# Altium schematic symbol library fpga_zynq_ultrascale.SchLib: 12 symbols (part 2 of 4)
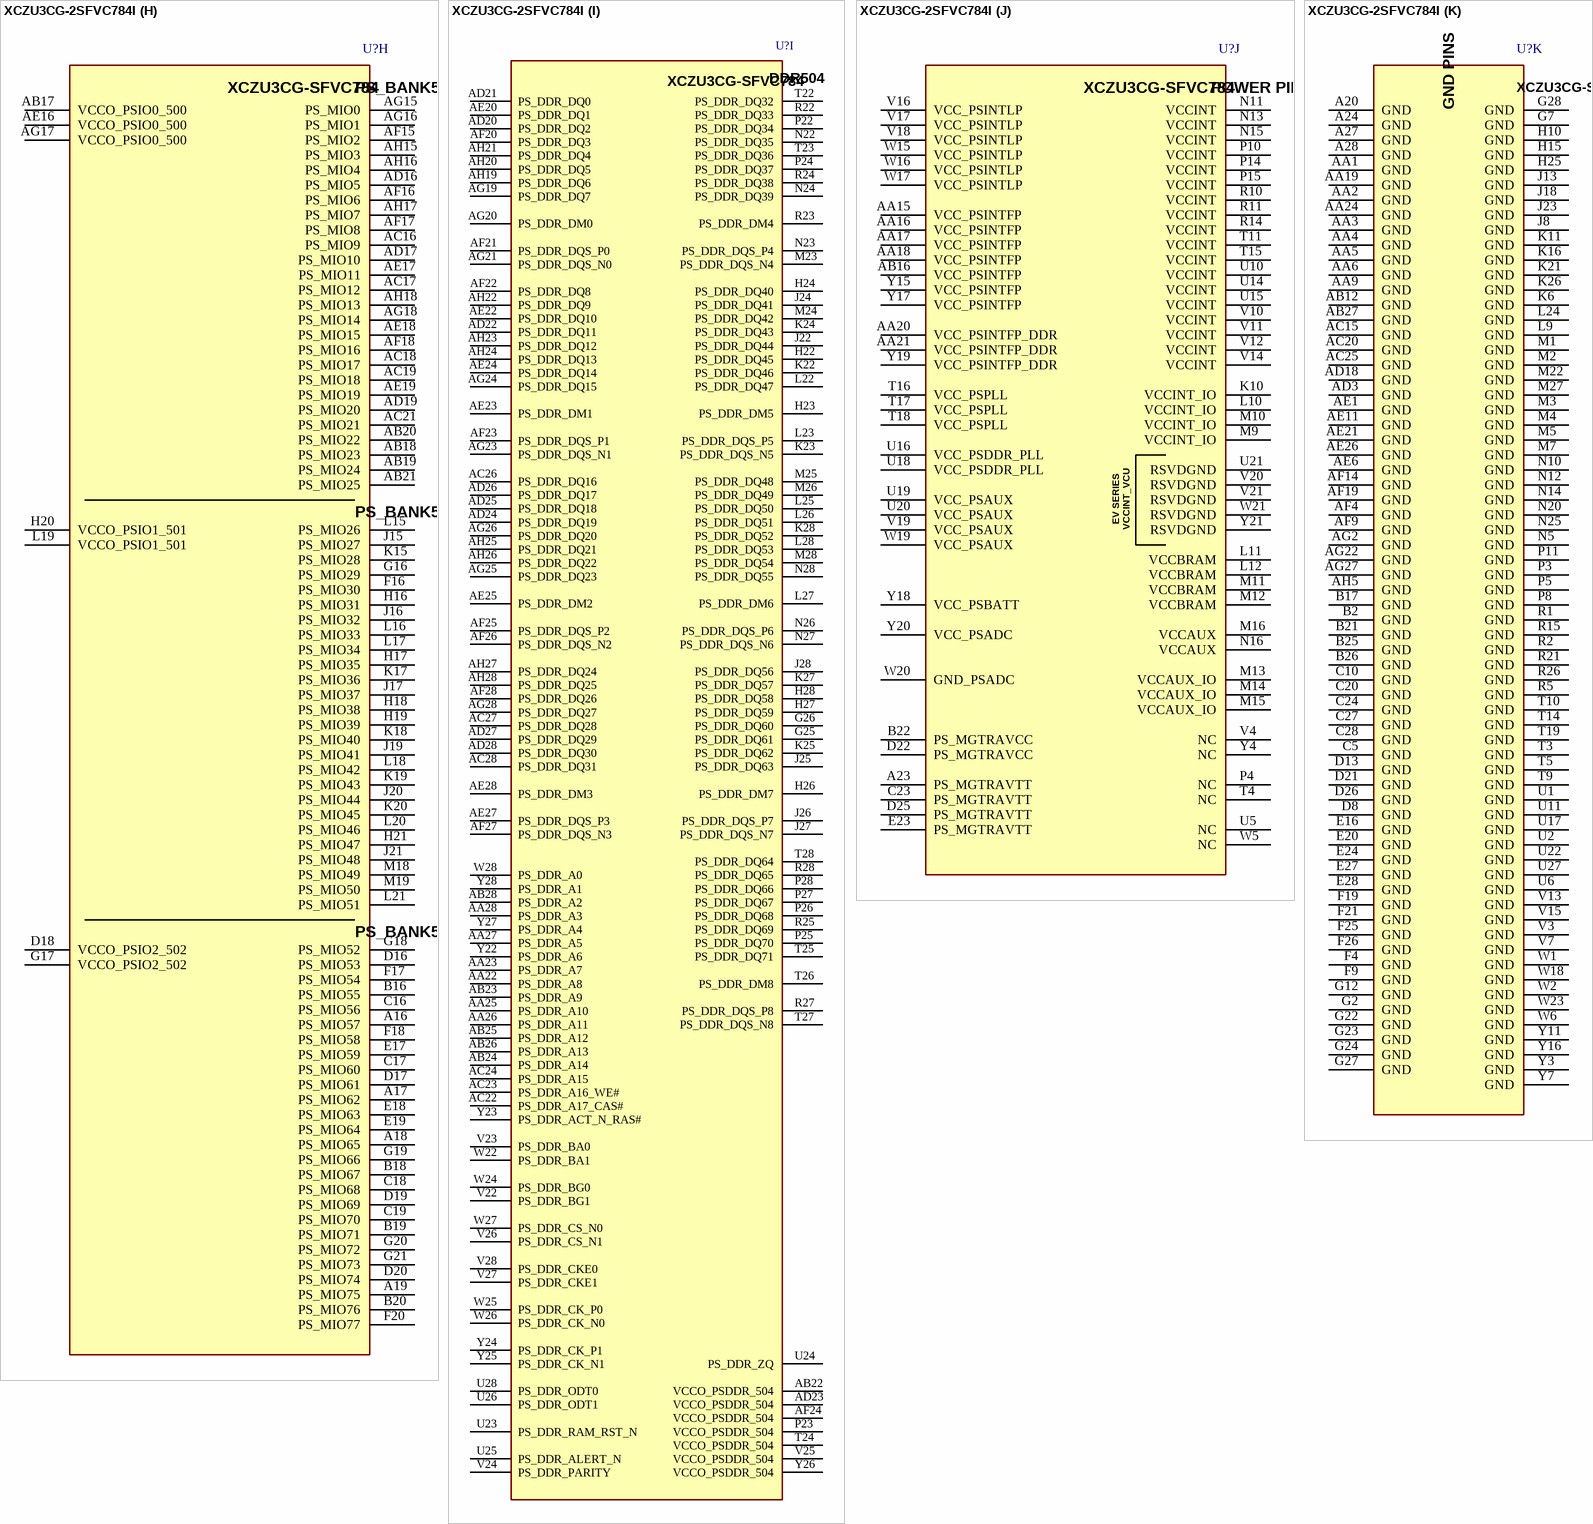
[diagram p36: symbol XCZU3CG-2SFVC784I]

## XCZU3CG-2SFVC784I
designator U?, comment XCZU3CG-C784I  (value not drawn)
SoC Zynq UltraScale+ MPSoC; MANF: XILINX; MANF_P#: XCZU3CG-2SFVC784I; VALUE: XCZU3CG-C784I
footprint BGA80_784_S23
part A pins: M17 VCCO_PSIO3_503, M20 PS_ERROR_STATUS, M21 PS_DONE, N17 PS_PADI, N18 PS_PADO, N19 PS_SRST_B, N21 PS_JTAG_TMS, P12 VCCADC, P13 GNDADC, P16 PS_POR_B, P17 PS_ERROR_OUT, P18 VCCO_PSIO3_503, P19 PS_MODE0, P20 PS_MODE1, P21 PS_INIT_B, R12 VREFN, R13 VP, R16 PS_REF_CLK, R17 PS_PROG_B, R18 PS_JTAG_TDI, R19 PS_JTAG_TCK, R20 PS_MODE2, T12 VN, T13 VREFP, T20 PS_MODE3, T21 PS_JTAG_TDO, U7 PUDC_B, U12 DXN, U13 DXP, W7 POR_OVERRIDE
part B pins: AA8 IO_L11N_AD1N_44, AA10 IO_L9N_AD3N_44, AA11 IO_L9P_AD3P_44, AA12 IO_L12N_AD8N_24, AA13 IO_L7P_HDGC_24, AA14 VCCO_24, AB9 IO_L12N_AD0N_44, AB10 IO_L12P_AD0P_44, AB11 IO_L8P_HDGC_AD4P_44, AB13 IO_L7N_HDGC_24, AB14 IO_L8N_HDGC_24, AB15 IO_L8P_HDGC_24, AC10 VCCO_44, AC11 IO_L8N_HDGC_AD4N_44, AC12 IO_L6P_HDGC_AD6P_44, AC13 IO_L6N_HDGC_24, AC14 IO_L6P_HDGC_24, AD10 IO_L7N_HDGC_AD5N_44, AD11 IO_L7P_HDGC_AD5P_44, AD12 IO_L6N_HDGC_AD6N_44, AD13 VCCO_24, AD14 IO_L5N_HDGC_24, AD15 IO_L5P_HDGC_24, AE10 IO_L4P_AD8P_44, AE12 IO_L5P_HDGC_AD7P_44, AE13 IO_L4P_AD12P_24, AE14 IO_L1N_AD15N_24, AE15 IO_L1P_AD15P_24, AF10 IO_L4N_AD8N_44, AF11 IO_L2P_AD10P_44, AF12 IO_L5N_HDGC_AD7N_44, AF13 IO_L4N_AD12N_24, AG10 IO_L1P_AD11P_44, AG11 IO_L2N_AD10N_44, AG12 VCCO_44, AG13 IO_L3P_AD13P_24, AG14 IO_L2P_AD14P_24, AH10 IO_L1N_AD11N_44, AH11 IO_L3N_AD9N_44, AH12 IO_L3P_AD9P_44, AH13 IO_L3N_AD13N_24, AH14 IO_L2N_AD14N_24, W10 IO_L10P_AD2P_44, W11 IO_L11N_AD9N_24, W12 IO_L11P_AD9P_24, W13 IO_L9N_AD11N_24, W14 IO_L9P_AD11P_24, Y9 IO_L11P_AD1P_44, Y10 IO_L10N_AD2N_44, Y12 IO_L12P_AD8P_24, Y13 IO_L10N_AD10N_24, Y14 IO_L10P_AD10P_24
part C pins: A10 IO_L10N_AD10N_25, A11 IO_L11N_AD9N_25, A12 IO_L11P_AD9P_25, A13 IO_L3N_AD9N_26, A14 IO_L2N_AD10N_26, A15 IO_L1N_AD11N_26, B10 IO_L9N_AD11N_25, B11 IO_L10P_AD10P_25, B12 VCCO_25, B13 IO_L3P_AD9P_26, B14 IO_L2P_AD10P_26, B15 IO_L1P_AD11P_26, C11 IO_L9P_AD11P_25, C12 IO_L12N_AD8N_25, C13 IO_L4N_AD8N_26, C14 IO_L4P_AD8P_26, C15 VCCO_26, D10 IO_L7N_HDGC_25, D11 IO_L8N_HDGC_25, D12 IO_L12P_AD8P_25, D14 IO_L5N_HDGC_AD7N_26, D15 IO_L5P_HDGC_AD7P_26, E10 IO_L7P_HDGC_25, E11 VCCO_25, E12 IO_L8P_HDGC_25, E13 IO_L6N_HDGC_AD6N_26, E14 IO_L6P_HDGC_AD6P_26, E15 IO_L8N_HDGC_AD4N_26, F10 IO_L5N_HDGC_25, F11 IO_L6N_HDGC_25, F12 IO_L6P_HDGC_25, F13 IO_L7N_HDGC_AD5N_26, F14 VCCO_26, F15 IO_L8P_HDGC_AD4P_26, G10 IO_L3N_AD13N_25, G11 IO_L5P_HDGC_25, G13 IO_L7P_HDGC_AD5P_26, G14 IO_L9N_AD3N_26, G15 IO_L9P_AD3P_26, H11 IO_L3P_AD13P_25, H12 IO_L4N_AD12N_25, H13 IO_L10N_AD2N_26, H14 IO_L10P_AD2P_26, J10 IO_L1N_AD15N_25, J11 IO_L1P_AD15P_25, J12 IO_L4P_AD12P_25, J14 IO_L11N_AD1N_26, K12 IO_L2N_AD14N_25, K13 IO_L2P_AD14P_25, K14 IO_L11P_AD1P_26, L13 IO_L12N_AD0N_26, L14 IO_L12P_AD0P_26
part D pins: AA7 VREF_64, AB1 IO_L18P_T2U_N10_AD2P_64, AB2 IO_L17P_T2U_N8_AD10P_64, AB3 IO_L15N_T2L_N5_AD11N_64, AB4 IO_L15P_T2L_N4_AD11P_64, AB5 IO_T2U_N12_64, AB6 IO_L6P_T0U_N10_AD6P_64, AB7 IO_L5P_T0U_N8_AD14P_64, AB8 IO_L3P_T0L_N4_AD15P_64, AC1 IO_L18N_T2U_N11_AD2N_64, AC2 IO_L17N_T2U_N9_AD10N_64, AC3 IO_L14N_T2L_N3_GC_64, AC4 IO_L14P_T2L_N2_GC_64, AC5 VCCO_64, AC6 IO_L6N_T0U_N11_AD6N_64, AC7 IO_L5N_T0U_N9_AD14N_64, AC8 IO_L3N_T0L_N5_AD15N_64, AC9 IO_L1P_T0L_N0_DBC_64, AD1 IO_L16N_T2U_N7_QBC_AD3N_64, AD2 IO_L16P_T2U_N6_QBC_AD3P_64, AD4 IO_L13N_T2L_N1_GC_QBC_64, AD5 IO_L13P_T2L_N0_GC_QBC_64, AD6 IO_T0U_N12_VRP_64, AD7 IO_L4P_T0U_N6_DBC_AD7P_64, AD8 VCCO_64, AD9 IO_L1N_T0L_N1_DBC_64, AE2 IO_L22P_T3U_N6_DBC_AD0P_64, AE3 IO_L21P_T3L_N4_AD8P_64, AE4 IO_T3U_N12_64, AE5 IO_L12P_T1U_N10_GC_64, AE7 IO_L4N_T0U_N7_DBC_AD7N_64, AE8 IO_L2N_T0L_N3_64, AE9 IO_L2P_T0L_N2_64, AF1 IO_L24P_T3U_N10_64, AF2 IO_L22N_T3U_N7_DBC_AD0N_64, AF3 IO_L21N_T3L_N5_AD8N_64, AF5 IO_L12N_T1U_N11_GC_64, AF6 IO_L11N_T1U_N9_GC_64, AF7 IO_L11P_T1U_N8_GC_64, AF8 IO_L8P_T1L_N2_AD5P_64, AG1 IO_L24N_T3U_N11_64, AG3 IO_L20P_T3L_N2_AD1P_64, AG4 IO_L19P_T3L_N0_DBC_AD9P_64, AG5 IO_L10N_T1U_N7_QBC_AD4N_64, AG6 IO_L10P_T1U_N6_QBC_AD4P_64, AG7 VCCO_64, AG8 IO_L8N_T1L_N3_AD5N_64, AG9 IO_L7P_T1L_N0_QBC_AD13P_64, AH1 IO_L23N_T3U_N9_64, AH2 IO_L23P_T3U_N8_64, AH3 IO_L20N_T3L_N3_AD1N_64, AH4 IO_L19N_T3L_N1_DBC_AD9N_64, AH6 IO_T1U_N12_64, AH7 IO_L9N_T1L_N5_AD12N_64, AH8 IO_L9P_T1L_N4_AD12P_64, AH9 IO_L7N_T1L_N1_QBC_AD13N_64
part E pins: H1 IO_L8N_T1L_N3_AD5N_65, H2 IO_T1U_N12_65, H3 IO_L10N_T1U_N7_QBC_AD4N_65, H4 IO_L10P_T1U_N6_QBC_AD4P_65, H5 VCCO_65, H6 IO_L20N_T3L_N3_AD1N_65, H7 IO_L21N_T3L_N5_AD8N_65, H8 IO_L24N_T3U_N11_PERSTN0_65, H9 IO_L24P_T3U_N10_PERSTN1_I2C_SDA_65, J1 IO_L8P_T1L_N2_AD5P_65, J2 IO_L9N_T1L_N5_AD12N_65, J3 VCCO_65, J4 IO_L19N_T3L_N1_DBC_AD9N_65, J5 IO_L19P_T3L_N0_DBC_AD9P_65, J6 IO_L20P_T3L_N2_AD1P_65, J7 IO_L21P_T3L_N4_AD8P_65, J9 IO_L23N_T3U_N9_65, K1 IO_L7N_T1L_N1_QBC_AD13N_65, K2 IO_L9P_T1L_N4_AD12P_65, K3 IO_L11N_T1U_N9_GC_65, K4 IO_L11P_T1U_N8_GC_65, K5 IO_T3U_N12_65, K7 IO_L22N_T3U_N7_DBC_AD0N_65, K8 IO_L22P_T3U_N6_DBC_AD0P_65, K9 IO_L23P_T3U_N8_I2C_SCLK_65, L1 IO_L7P_T1L_N0_QBC_AD13P_65, L2 IO_L12N_T1U_N11_GC_65, L3 IO_L12P_T1U_N10_GC_65, L4 VCCO_65, L5 IO_L14N_T2L_N3_GC_65, L6 IO_L13N_T2L_N1_GC_QBC_65, L7 IO_L13P_T2L_N0_GC_QBC_65, L8 IO_L18N_T2U_N11_AD2N_65, M6 IO_L14P_T2L_N2_GC_65, M8 IO_L18P_T2U_N10_AD2P_65, N6 IO_L15N_T2L_N5_AD11N_65, N7 IO_L15P_T2L_N4_AD11P_65, N8 IO_L17N_T2U_N9_AD10N_65, N9 IO_L17P_T2U_N8_AD10P_65, P6 IO_L16N_T2U_N7_QBC_AD3N_65, P7 IO_L16P_T2U_N6_QBC_AD3P_65, P9 IO_T2U_N12_65, R6 IO_L6P_T0U_N10_AD6P_65, R7 IO_L5P_T0U_N8_AD14P_65, R8 IO_L4P_T0U_N6_DBC_AD7P_SMBALERT_65, R9 VREF_65, T6 IO_L6N_T0U_N11_AD6N_65, T7 IO_L5N_T0U_N9_AD14N_65, T8 IO_L4N_T0U_N7_DBC_AD7N_65, U8 IO_L3P_T0L_N4_AD15P_65, U9 IO_L2P_T0L_N2_65, V8 IO_L3N_T0L_N5_AD15N_65, V9 IO_L2N_T0L_N3_65, W8 IO_L1P_T0L_N0_DBC_65, W9 IO_T0U_N12_VRP_65, Y8 IO_L1N_T0L_N1_DBC_65
part F pins: A1 IO_L8N_T1L_N3_AD5N_66, A2 IO_L8P_T1L_N2_AD5P_66, A3 IO_L9N_T1L_N5_AD12N_66, A4 IO_L10N_T1U_N7_QBC_AD4N_66, A5 IO_L19N_T3L_N1_DBC_AD9N_66, A6 IO_L21N_T3L_N5_AD8N_66, A7 IO_L21P_T3L_N4_AD8P_66, A8 IO_L23N_T3U_N9_66, A9 IO_L23P_T3U_N8_66, B1 IO_L7N_T1L_N1_QBC_AD13N_66, B3 IO_L9P_T1L_N4_AD12P_66, B4 IO_L10P_T1U_N6_QBC_AD4P_66, B5 IO_L19P_T3L_N0_DBC_AD9P_66, B6 IO_L20N_T3L_N3_AD1N_66, B7 VCCO_66, B8 IO_L22N_T3U_N7_DBC_AD0N_66, B9 IO_L24N_T3U_N11_66, C1 IO_L7P_T1L_N0_QBC_AD13P_66, C2 IO_L12N_T1U_N11_GC_66, C3 IO_L12P_T1U_N10_GC_66, C4 IO_L11N_T1U_N9_GC_66, C6 IO_L20P_T3L_N2_AD1P_66, C7 IO_T3U_N12_66, C8 IO_L22P_T3U_N6_DBC_AD0P_66, C9 IO_L24P_T3U_N10_66, D1 IO_L2N_T0L_N3_66, D2 IO_T1U_N12_66, D3 VCCO_66, D4 IO_L11P_T1U_N8_GC_66, D5 IO_L14N_T2L_N3_GC_66, D6 IO_L13N_T2L_N1_GC_QBC_66, D7 IO_L13P_T2L_N0_GC_QBC_66, D9 IO_L18N_T2U_N11_AD2N_66, E1 IO_L2P_T0L_N2_66, E2 IO_L3N_T0L_N5_AD15N_66, E3 IO_L5N_T0U_N9_AD14N_66, E4 IO_L5P_T0U_N8_AD14P_66, E5 IO_L14P_T2L_N2_GC_66, E6 VCCO_66, E7 IO_T2U_N12_66, E8 IO_L17N_T2U_N9_AD10N_66, E9 IO_L18P_T2U_N10_AD2P_66, F1 IO_L1N_T0L_N1_DBC_66, F2 IO_L3P_T0L_N4_AD15P_66, F3 IO_L4N_T0U_N7_DBC_AD7N_66, F5 IO_L6N_T0U_N11_AD6N_66, F6 IO_L15N_T2L_N5_AD11N_66, F7 IO_L16N_T2U_N7_QBC_AD3N_66, F8 IO_L17P_T2U_N8_AD10P_66, G1 IO_L1P_T0L_N0_DBC_66, G3 IO_L4P_T0U_N6_DBC_AD7P_66, G4 IO_T0U_N12_VRP_66, G5 IO_L6P_T0U_N10_AD6P_66, G6 IO_L15P_T2L_N4_AD11P_66, G8 IO_L16P_T2U_N6_QBC_AD3P_66, G9 VREF_66
part G pins: A21 PS_MGTREFCLK3P_505, A22 PS_MGTREFCLK3N_505, A25 PS_MGTRRXP3_505, A26 PS_MGTRRXN3_505, B23 PS_MGTRTXP3_505, B24 PS_MGTRTXN3_505, B27 PS_MGTRRXP2_505, B28 PS_MGTRRXN2_505, C21 PS_MGTREFCLK2P_505, C22 PS_MGTREFCLK2N_505, C25 PS_MGTRTXP2_505, C26 PS_MGTRTXN2_505, D23 PS_MGTRTXP1_505, D24 PS_MGTRTXN1_505, D27 PS_MGTRRXP1_505, D28 PS_MGTRRXN1_505, E21 PS_MGTREFCLK1P_505, E22 PS_MGTREFCLK1N_505, E25 PS_MGTRTXP0_505, E26 PS_MGTRTXN0_505, F22 PS_MGTRREF_505, F23 PS_MGTREFCLK0P_505, F24 PS_MGTREFCLK0N_505, F27 PS_MGTRRXP0_505, F28 PS_MGTRRXN0_505, N1 NC, N2 NC, N3 NC, N4 NC, P1 NC, P2 NC, R3 NC, R4 NC, T1 NC, T2 NC, U3 NC, U4 NC, V1 NC, V2 NC, V5 NC, V6 NC, W3 NC, W4 NC, Y1 NC, Y2 NC, Y5 NC, Y6 NC
part H pins: A16 PS_MIO57, A17 PS_MIO62, A18 PS_MIO65, A19 PS_MIO75, AB17 VCCO_PSIO0_500, AB18 PS_MIO23, AB19 PS_MIO24, AB20 PS_MIO22, AB21 PS_MIO25, AC16 PS_MIO9, AC17 PS_MIO12, AC18 PS_MIO17, AC19 PS_MIO18, AC21 PS_MIO21, AD16 PS_MIO5, AD17 PS_MIO10, AD19 PS_MIO20, AE16 VCCO_PSIO0_500, AE17 PS_MIO11, AE18 PS_MIO15, AE19 PS_MIO19, AF15 PS_MIO2, AF16 PS_MIO6, AF17 PS_MIO8, AF18 PS_MIO16, AG15 PS_MIO0, AG16 PS_MIO1, AG17 VCCO_PSIO0_500, AG18 PS_MIO14, AH15 PS_MIO3, AH16 PS_MIO4, AH17 PS_MIO7, AH18 PS_MIO13, B16 PS_MIO55, B18 PS_MIO67, B19 PS_MIO71, B20 PS_MIO76, C16 PS_MIO56, C17 PS_MIO60, C18 PS_MIO68, C19 PS_MIO70, D16 PS_MIO53, D17 PS_MIO61, D18 VCCO_PSIO2_502, D19 PS_MIO69, D20 PS_MIO74, E17 PS_MIO59, E18 PS_MIO63, E19 PS_MIO64, F16 PS_MIO30, F17 PS_MIO54, F18 PS_MIO58, F20 PS_MIO77, G16 PS_MIO29, G17 VCCO_PSIO2_502, G18 PS_MIO52, G19 PS_MIO66, G20 PS_MIO72, G21 PS_MIO73, H16 PS_MIO31, H17 PS_MIO35, H18 PS_MIO38, H19 PS_MIO39, H20 VCCO_PSIO1_501, H21 PS_MIO47, J15 PS_MIO27, J16 PS_MIO32, J17 PS_MIO37, J19 PS_MIO41, J20 PS_MIO44, J21 PS_MIO48, K15 PS_MIO28, K17 PS_MIO36, K18 PS_MIO40, K19 PS_MIO43, K20 PS_MIO45, L15 PS_MIO26, L16 PS_MIO33, L17 PS_MIO34, L18 PS_MIO42, L19 VCCO_PSIO1_501, L20 PS_MIO46, L21 PS_MIO51, M18 PS_MIO49, M19 PS_MIO50
part I pins: AA22 PS_DDR_A8, AA23 PS_DDR_A7, AA25 PS_DDR_A10, AA26 PS_DDR_A11, AA27 PS_DDR_A5, AA28 PS_DDR_A3, AB22 VCCO_PSDDR_504, AB23 PS_DDR_A9, AB24 PS_DDR_A14, AB25 PS_DDR_A12, AB26 PS_DDR_A13, AB28 PS_DDR_A2, AC22 PS_DDR_A17_CAS#, AC23 PS_DDR_A16_WE#, AC24 PS_DDR_A15, AC26 PS_DDR_DQ16, AC27 PS_DDR_DQ28, AC28 PS_DDR_DQ31, AD20 PS_DDR_DQ2, AD21 PS_DDR_DQ0, AD22 PS_DDR_DQ11, AD23 VCCO_PSDDR_504, AD24 PS_DDR_DQ19, AD25 PS_DDR_DQ18, AD26 PS_DDR_DQ17, AD27 PS_DDR_DQ29, AD28 PS_DDR_DQ30, AE20 PS_DDR_DQ1, AE22 PS_DDR_DQ10, AE23 PS_DDR_DM1, AE24 PS_DDR_DQ14, AE25 PS_DDR_DM2, AE27 PS_DDR_DQS_P3, AE28 PS_DDR_DM3, AF20 PS_DDR_DQ3, AF21 PS_DDR_DQS_P0, AF22 PS_DDR_DQ8, AF23 PS_DDR_DQS_P1, AF24 VCCO_PSDDR_504, AF25 PS_DDR_DQS_P2, AF26 PS_DDR_DQS_N2, AF27 PS_DDR_DQS_N3, AF28 PS_DDR_DQ26, AG19 PS_DDR_DQ7, AG20 PS_DDR_DM0, AG21 PS_DDR_DQS_N0, AG23 PS_DDR_DQS_N1, AG24 PS_DDR_DQ15, AG25 PS_DDR_DQ23, AG26 PS_DDR_DQ20, AG28 PS_DDR_DQ27, AH19 PS_DDR_DQ6, AH20 PS_DDR_DQ5, AH21 PS_DDR_DQ4, AH22 PS_DDR_DQ9, AH23 PS_DDR_DQ12, AH24 PS_DDR_DQ13, AH25 PS_DDR_DQ21, AH26 PS_DDR_DQ22, AH27 PS_DDR_DQ24, AH28 PS_DDR_DQ25, G25 PS_DDR_DQ61, G26 PS_DDR_DQ60, H22 PS_DDR_DQ45, H23 PS_DDR_DM5, H24 PS_DDR_DQ40, H26 PS_DDR_DM7, H27 PS_DDR_DQ59, H28 PS_DDR_DQ58, J22 PS_DDR_DQ44, J24 PS_DDR_DQ41, J25 PS_DDR_DQ63, J26 PS_DDR_DQS_P7, J27 PS_DDR_DQS_N7, J28 PS_DDR_DQ56, K22 PS_DDR_DQ46, K23 PS_DDR_DQS_N5, K24 PS_DDR_DQ43, K25 PS_DDR_DQ62, K27 PS_DDR_DQ57, K28 PS_DDR_DQ52, L22 PS_DDR_DQ47, L23 PS_DDR_DQS_P5, L25 PS_DDR_DQ50, L26 PS_DDR_DQ51, L27 PS_DDR_DM6, L28 PS_DDR_DQ53, M23 PS_DDR_DQS_N4, M24 PS_DDR_DQ42, M25 PS_DDR_DQ48, M26 PS_DDR_DQ49, M28 PS_DDR_DQ54, N22 PS_DDR_DQ35, N23 PS_DDR_DQS_P4, N24 PS_DDR_DQ39, N26 PS_DDR_DQS_P6, N27 PS_DDR_DQS_N6, N28 PS_DDR_DQ55, P22 PS_DDR_DQ34, P23 VCCO_PSDDR_504, P24 PS_DDR_DQ37, P25 PS_DDR_DQ70, P26 PS_DDR_DQ68, P27 PS_DDR_DQ67, P28 PS_DDR_DQ66, R22 PS_DDR_DQ33, R23 PS_DDR_DM4, R24 PS_DDR_DQ38, R25 PS_DDR_DQ69, R27 PS_DDR_DQS_P8, R28 PS_DDR_DQ65, T22 PS_DDR_DQ32, T23 PS_DDR_DQ36, T24 VCCO_PSDDR_504, T25 PS_DDR_DQ71, T26 PS_DDR_DM8, T27 PS_DDR_DQS_N8, T28 PS_DDR_DQ64, U23 PS_DDR_RAM_RST_N, U24 PS_DDR_ZQ, U25 PS_DDR_ALERT_N, U26 PS_DDR_ODT1, U28 PS_DDR_ODT0, V22 PS_DDR_BG1, V23 PS_DDR_BA0, V24 PS_DDR_PARITY, V25 VCCO_PSDDR_504, V26 PS_DDR_CS_N1, V27 PS_DDR_CKE1, V28 PS_DDR_CKE0, W22 PS_DDR_BA1, W24 PS_DDR_BG0, W25 PS_DDR_CK_P0, W26 PS_DDR_CK_N0, W27 PS_DDR_CS_N0, W28 PS_DDR_A0, Y22 PS_DDR_A6, Y23 PS_DDR_ACT_N_RAS#, Y24 PS_DDR_CK_P1, Y25 PS_DDR_CK_N1, Y26 VCCO_PSDDR_504, Y27 PS_DDR_A4, Y28 PS_DDR_A1
part J pins: A23 PS_MGTRAVTT, AA15 VCC_PSINTFP, AA16 VCC_PSINTFP, AA17 VCC_PSINTFP, AA18 VCC_PSINTFP, AA20 VCC_PSINTFP_DDR, AA21 VCC_PSINTFP_DDR, AB16 VCC_PSINTFP, B22 PS_MGTRAVCC, C23 PS_MGTRAVTT, D22 PS_MGTRAVCC, D25 PS_MGTRAVTT, E23 PS_MGTRAVTT, K10 VCCINT_IO, L10 VCCINT_IO, L11 VCCBRAM, L12 VCCBRAM, M9 VCCINT_IO, M10 VCCINT_IO, M11 VCCBRAM, M12 VCCBRAM, M13 VCCAUX_IO, M14 VCCAUX_IO, M15 VCCAUX_IO, M16 VCCAUX, N11 VCCINT, N13 VCCINT, N15 VCCINT, N16 VCCAUX, P4 NC, P10 VCCINT, P14 VCCINT, P15 VCCINT, R10 VCCINT, R11 VCCINT, R14 VCCINT, T4 NC, T11 VCCINT, T15 VCCINT, T16 VCC_PSPLL, T17 VCC_PSPLL, T18 VCC_PSPLL, U5 NC, U10 VCCINT, U14 VCCINT, U15 VCCINT, U16 VCC_PSDDR_PLL, U18 VCC_PSDDR_PLL, U19 VCC_PSAUX, U20 VCC_PSAUX, U21 RSVDGND, V4 NC, V10 VCCINT, V11 VCCINT, V12 VCCINT, V14 VCCINT, V16 VCC_PSINTLP, V17 VCC_PSINTLP, V18 VCC_PSINTLP, V19 VCC_PSAUX, V20 RSVDGND, V21 RSVDGND, W5 NC, W15 VCC_PSINTLP, W16 VCC_PSINTLP, W17 VCC_PSINTLP, W19 VCC_PSAUX, W20 GND_PSADC, W21 RSVDGND, Y4 NC, Y15 VCC_PSINTFP, Y17 VCC_PSINTFP, Y18 VCC_PSBATT, Y19 VCC_PSINTFP_DDR, Y20 VCC_PSADC, Y21 RSVDGND
part K pins: A20 GND, A24 GND, A27 GND, A28 GND, AA1 GND, AA2 GND, AA3 GND, AA4 GND, AA5 GND, AA6 GND, AA9 GND, AA19 GND, AA24 GND, AB12 GND, AB27 GND, AC15 GND, AC20 GND, AC25 GND, AD3 GND, AD18 GND, AE1 GND, AE6 GND, AE11 GND, AE21 GND, AE26 GND, AF4 GND, AF9 GND, AF14 GND, AF19 GND, AG2 GND, AG22 GND, AG27 GND, AH5 GND, B2 GND, B17 GND, B21 GND, B25 GND, B26 GND, C5 GND, C10 GND, C20 GND, C24 GND, C27 GND, C28 GND, D8 GND, D13 GND, D21 GND, D26 GND, E16 GND, E20 GND, E24 GND, E27 GND, E28 GND, F4 GND, F9 GND, F19 GND, F21 GND, F25 GND, F26 GND, G2 GND, G7 GND, G12 GND, G22 GND, G23 GND, G24 GND, G27 GND, G28 GND, H10 GND, H15 GND, H25 GND, J8 GND, J13 GND, J18 GND, J23 GND, K6 GND, K11 GND, K16 GND, K21 GND, K26 GND, L9 GND, L24 GND, M1 GND, M2 GND, M3 GND, M4 GND, M5 GND, M7 GND, M22 GND, M27 GND, N5 GND, N10 GND, N12 GND, N14 GND, N20 GND, N25 GND, P3 GND, P5 GND, P8 GND, P11 GND, R1 GND, R2 GND, R5 GND, R15 GND, R21 GND, R26 GND, T3 GND, T5 GND, T9 GND, T10 GND, T14 GND, T19 GND, U1 GND, U2 GND, U6 GND, U11 GND, U17 GND, U22 GND, U27 GND, V3 GND, V7 GND, V13 GND, V15 GND, W1 GND, W2 GND, W6 GND, W18 GND, W23 GND, Y3 GND, Y7 GND, Y11 GND, Y16 GND
part A text: XCZU3CG-SFVC784; PL_BANK0; PS_CONFIG_BANK503; RTC XTAL
part B text: XCZU3CG-SFVC784; Bank44; Bank24
part C text: XCZU3CG-SFVC784; Bank25; Bank26
part D text: XCZU3CG-SFVC784; Bank64
part E text: XCZU3CG-SFVC784; Bank65
part F text: XCZU3CG-SFVC784; Bank66
part G text: XCZU3CG-SFVC784; MGT
part H text: XCZU3CG-SFVC784; PS_BANK500; PS_BANK501; PS_BANK502
part I text: XCZU3CG-SFVC784; DDR504
part J text: XCZU3CG-SFVC784; POWER PINS; EV SERIES; VCCINT_VCU
part K text: XCZU3CG-SFVC784; GND PINS

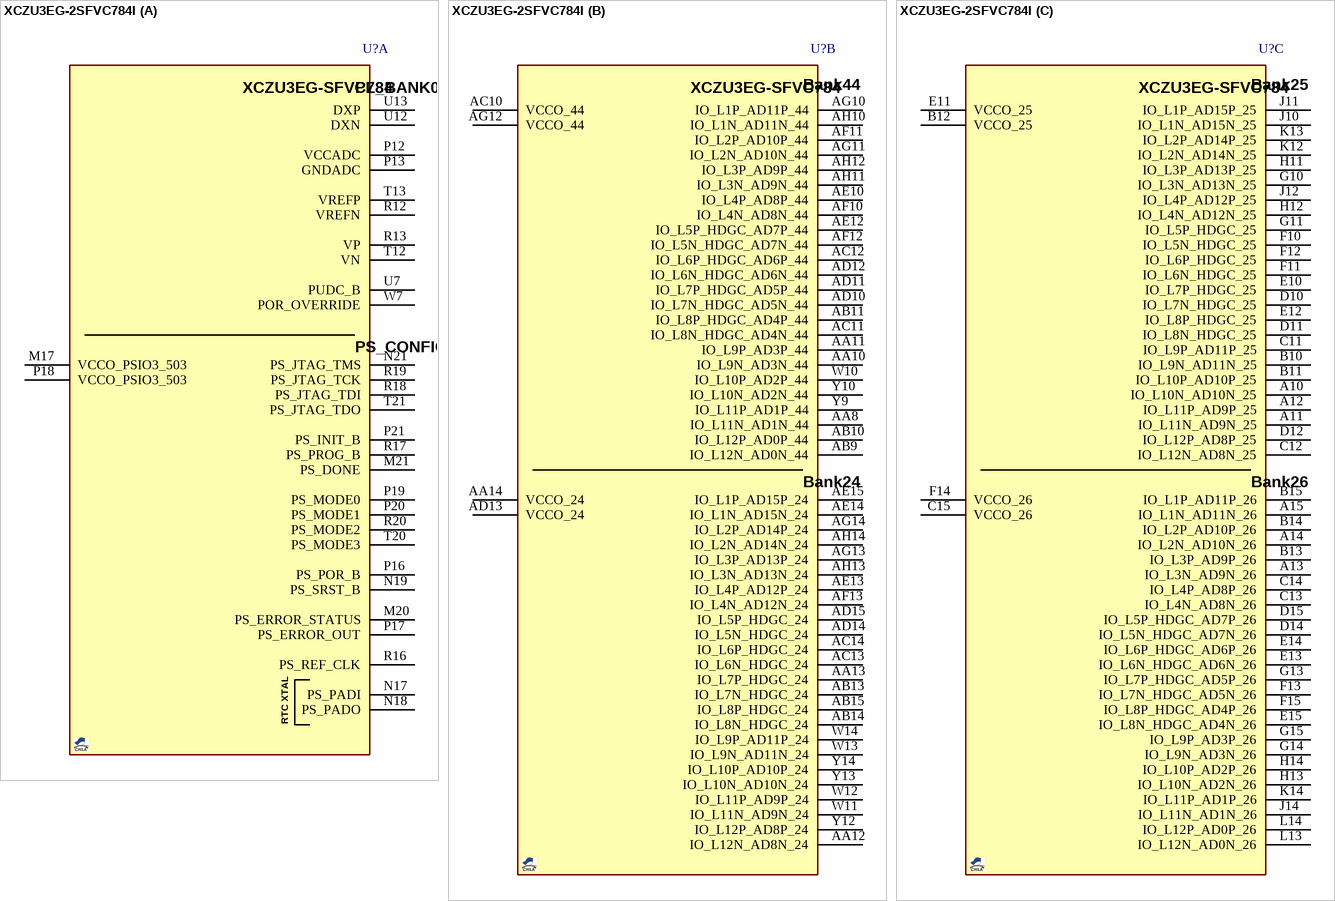
[diagram p12: symbol XCZU3EG-2SFVC784I]

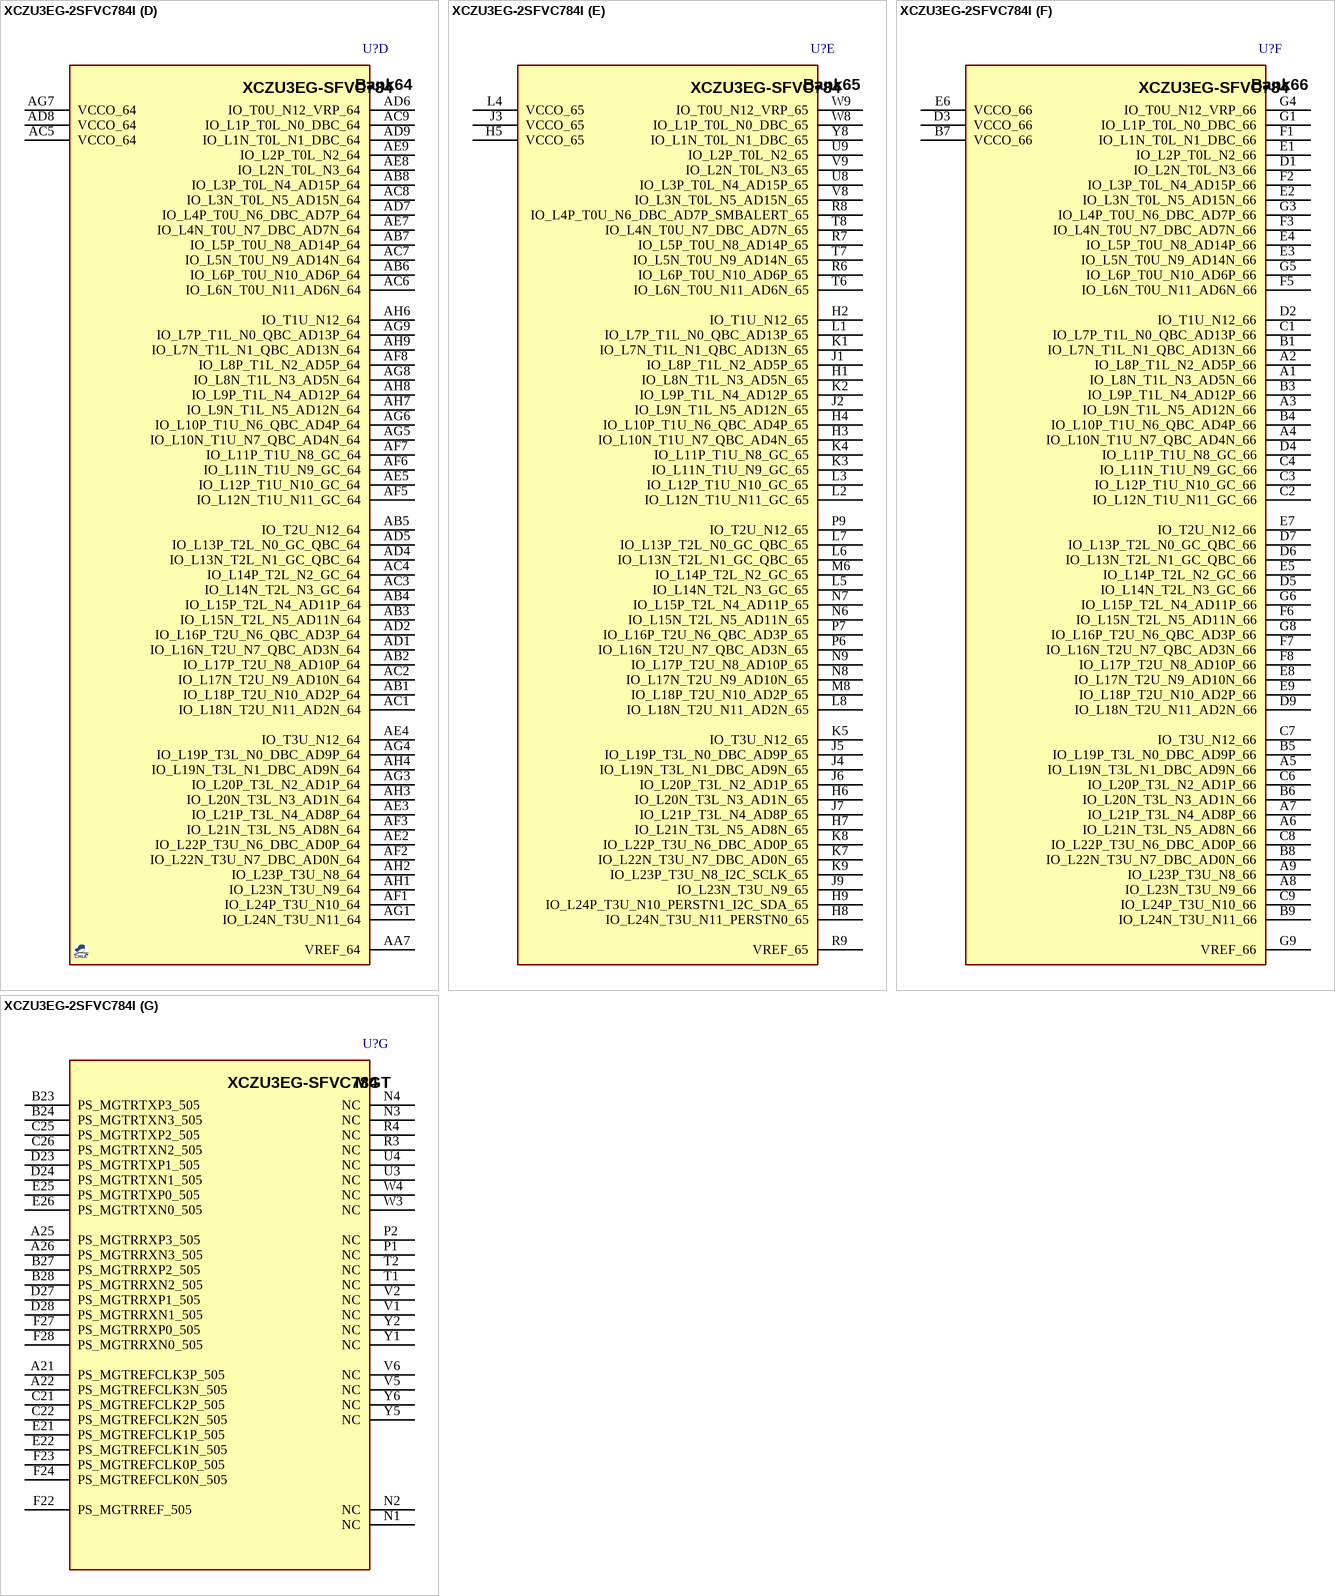
[diagram p13: symbol XCZU3EG-2SFVC784I]

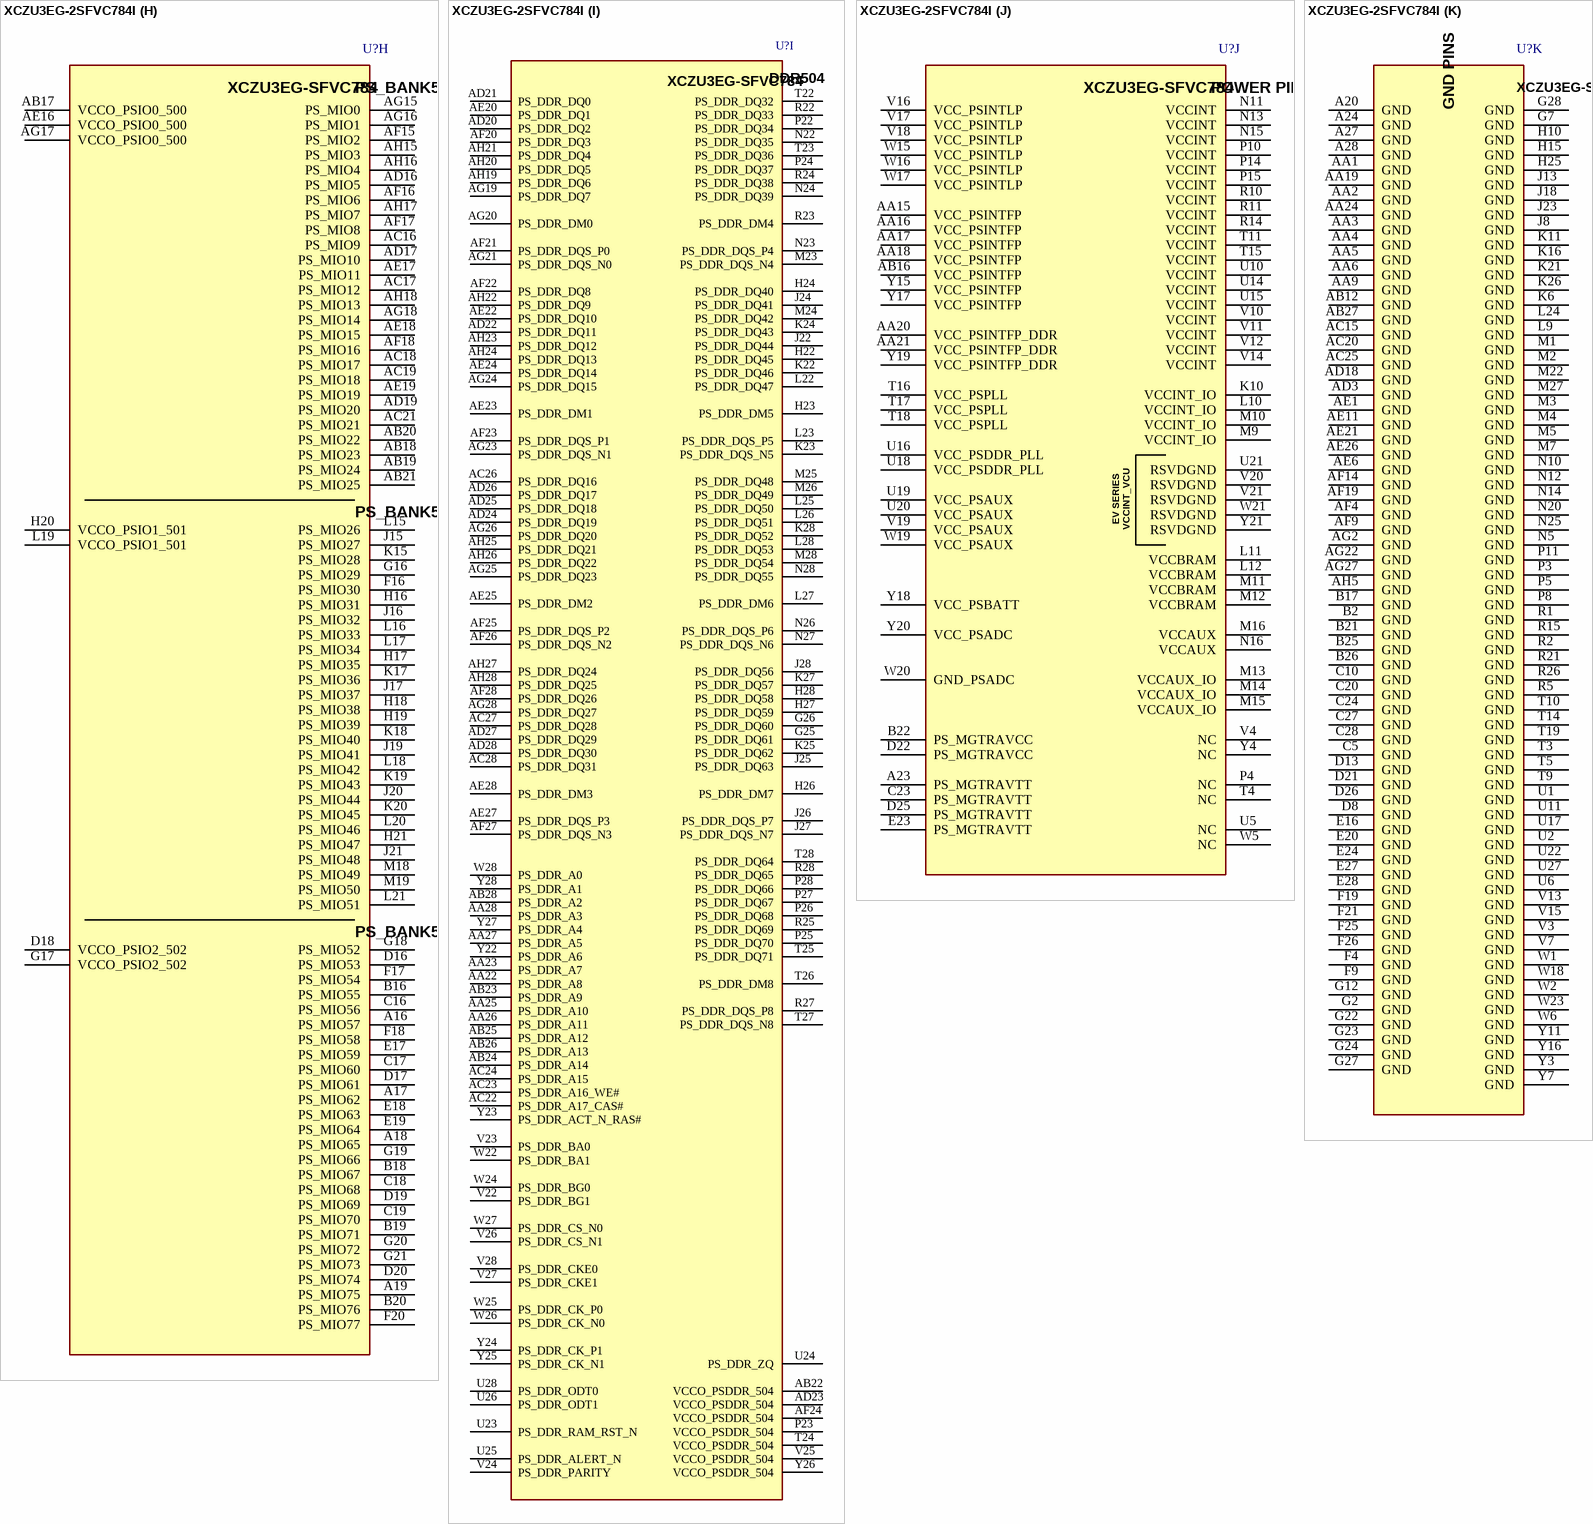
[diagram p14: symbol XCZU3EG-2SFVC784I]

## XCZU3EG-2SFVC784I
designator U?, comment XCZU3EG-C784I  (value not drawn)
SoC Zynq UltraScale+ MPSoC; MANF: XILINX; MANF_P#: XCZU3EG-2SFVC784I; VALUE: XCZU3EG-C784I
footprint BGA80_784_S23
part A pins: M17 VCCO_PSIO3_503, M20 PS_ERROR_STATUS, M21 PS_DONE, N17 PS_PADI, N18 PS_PADO, N19 PS_SRST_B, N21 PS_JTAG_TMS, P12 VCCADC, P13 GNDADC, P16 PS_POR_B, P17 PS_ERROR_OUT, P18 VCCO_PSIO3_503, P19 PS_MODE0, P20 PS_MODE1, P21 PS_INIT_B, R12 VREFN, R13 VP, R16 PS_REF_CLK, R17 PS_PROG_B, R18 PS_JTAG_TDI, R19 PS_JTAG_TCK, R20 PS_MODE2, T12 VN, T13 VREFP, T20 PS_MODE3, T21 PS_JTAG_TDO, U7 PUDC_B, U12 DXN, U13 DXP, W7 POR_OVERRIDE
part B pins: AA8 IO_L11N_AD1N_44, AA10 IO_L9N_AD3N_44, AA11 IO_L9P_AD3P_44, AA12 IO_L12N_AD8N_24, AA13 IO_L7P_HDGC_24, AA14 VCCO_24, AB9 IO_L12N_AD0N_44, AB10 IO_L12P_AD0P_44, AB11 IO_L8P_HDGC_AD4P_44, AB13 IO_L7N_HDGC_24, AB14 IO_L8N_HDGC_24, AB15 IO_L8P_HDGC_24, AC10 VCCO_44, AC11 IO_L8N_HDGC_AD4N_44, AC12 IO_L6P_HDGC_AD6P_44, AC13 IO_L6N_HDGC_24, AC14 IO_L6P_HDGC_24, AD10 IO_L7N_HDGC_AD5N_44, AD11 IO_L7P_HDGC_AD5P_44, AD12 IO_L6N_HDGC_AD6N_44, AD13 VCCO_24, AD14 IO_L5N_HDGC_24, AD15 IO_L5P_HDGC_24, AE10 IO_L4P_AD8P_44, AE12 IO_L5P_HDGC_AD7P_44, AE13 IO_L4P_AD12P_24, AE14 IO_L1N_AD15N_24, AE15 IO_L1P_AD15P_24, AF10 IO_L4N_AD8N_44, AF11 IO_L2P_AD10P_44, AF12 IO_L5N_HDGC_AD7N_44, AF13 IO_L4N_AD12N_24, AG10 IO_L1P_AD11P_44, AG11 IO_L2N_AD10N_44, AG12 VCCO_44, AG13 IO_L3P_AD13P_24, AG14 IO_L2P_AD14P_24, AH10 IO_L1N_AD11N_44, AH11 IO_L3N_AD9N_44, AH12 IO_L3P_AD9P_44, AH13 IO_L3N_AD13N_24, AH14 IO_L2N_AD14N_24, W10 IO_L10P_AD2P_44, W11 IO_L11N_AD9N_24, W12 IO_L11P_AD9P_24, W13 IO_L9N_AD11N_24, W14 IO_L9P_AD11P_24, Y9 IO_L11P_AD1P_44, Y10 IO_L10N_AD2N_44, Y12 IO_L12P_AD8P_24, Y13 IO_L10N_AD10N_24, Y14 IO_L10P_AD10P_24
part C pins: A10 IO_L10N_AD10N_25, A11 IO_L11N_AD9N_25, A12 IO_L11P_AD9P_25, A13 IO_L3N_AD9N_26, A14 IO_L2N_AD10N_26, A15 IO_L1N_AD11N_26, B10 IO_L9N_AD11N_25, B11 IO_L10P_AD10P_25, B12 VCCO_25, B13 IO_L3P_AD9P_26, B14 IO_L2P_AD10P_26, B15 IO_L1P_AD11P_26, C11 IO_L9P_AD11P_25, C12 IO_L12N_AD8N_25, C13 IO_L4N_AD8N_26, C14 IO_L4P_AD8P_26, C15 VCCO_26, D10 IO_L7N_HDGC_25, D11 IO_L8N_HDGC_25, D12 IO_L12P_AD8P_25, D14 IO_L5N_HDGC_AD7N_26, D15 IO_L5P_HDGC_AD7P_26, E10 IO_L7P_HDGC_25, E11 VCCO_25, E12 IO_L8P_HDGC_25, E13 IO_L6N_HDGC_AD6N_26, E14 IO_L6P_HDGC_AD6P_26, E15 IO_L8N_HDGC_AD4N_26, F10 IO_L5N_HDGC_25, F11 IO_L6N_HDGC_25, F12 IO_L6P_HDGC_25, F13 IO_L7N_HDGC_AD5N_26, F14 VCCO_26, F15 IO_L8P_HDGC_AD4P_26, G10 IO_L3N_AD13N_25, G11 IO_L5P_HDGC_25, G13 IO_L7P_HDGC_AD5P_26, G14 IO_L9N_AD3N_26, G15 IO_L9P_AD3P_26, H11 IO_L3P_AD13P_25, H12 IO_L4N_AD12N_25, H13 IO_L10N_AD2N_26, H14 IO_L10P_AD2P_26, J10 IO_L1N_AD15N_25, J11 IO_L1P_AD15P_25, J12 IO_L4P_AD12P_25, J14 IO_L11N_AD1N_26, K12 IO_L2N_AD14N_25, K13 IO_L2P_AD14P_25, K14 IO_L11P_AD1P_26, L13 IO_L12N_AD0N_26, L14 IO_L12P_AD0P_26
part D pins: AA7 VREF_64, AB1 IO_L18P_T2U_N10_AD2P_64, AB2 IO_L17P_T2U_N8_AD10P_64, AB3 IO_L15N_T2L_N5_AD11N_64, AB4 IO_L15P_T2L_N4_AD11P_64, AB5 IO_T2U_N12_64, AB6 IO_L6P_T0U_N10_AD6P_64, AB7 IO_L5P_T0U_N8_AD14P_64, AB8 IO_L3P_T0L_N4_AD15P_64, AC1 IO_L18N_T2U_N11_AD2N_64, AC2 IO_L17N_T2U_N9_AD10N_64, AC3 IO_L14N_T2L_N3_GC_64, AC4 IO_L14P_T2L_N2_GC_64, AC5 VCCO_64, AC6 IO_L6N_T0U_N11_AD6N_64, AC7 IO_L5N_T0U_N9_AD14N_64, AC8 IO_L3N_T0L_N5_AD15N_64, AC9 IO_L1P_T0L_N0_DBC_64, AD1 IO_L16N_T2U_N7_QBC_AD3N_64, AD2 IO_L16P_T2U_N6_QBC_AD3P_64, AD4 IO_L13N_T2L_N1_GC_QBC_64, AD5 IO_L13P_T2L_N0_GC_QBC_64, AD6 IO_T0U_N12_VRP_64, AD7 IO_L4P_T0U_N6_DBC_AD7P_64, AD8 VCCO_64, AD9 IO_L1N_T0L_N1_DBC_64, AE2 IO_L22P_T3U_N6_DBC_AD0P_64, AE3 IO_L21P_T3L_N4_AD8P_64, AE4 IO_T3U_N12_64, AE5 IO_L12P_T1U_N10_GC_64, AE7 IO_L4N_T0U_N7_DBC_AD7N_64, AE8 IO_L2N_T0L_N3_64, AE9 IO_L2P_T0L_N2_64, AF1 IO_L24P_T3U_N10_64, AF2 IO_L22N_T3U_N7_DBC_AD0N_64, AF3 IO_L21N_T3L_N5_AD8N_64, AF5 IO_L12N_T1U_N11_GC_64, AF6 IO_L11N_T1U_N9_GC_64, AF7 IO_L11P_T1U_N8_GC_64, AF8 IO_L8P_T1L_N2_AD5P_64, AG1 IO_L24N_T3U_N11_64, AG3 IO_L20P_T3L_N2_AD1P_64, AG4 IO_L19P_T3L_N0_DBC_AD9P_64, AG5 IO_L10N_T1U_N7_QBC_AD4N_64, AG6 IO_L10P_T1U_N6_QBC_AD4P_64, AG7 VCCO_64, AG8 IO_L8N_T1L_N3_AD5N_64, AG9 IO_L7P_T1L_N0_QBC_AD13P_64, AH1 IO_L23N_T3U_N9_64, AH2 IO_L23P_T3U_N8_64, AH3 IO_L20N_T3L_N3_AD1N_64, AH4 IO_L19N_T3L_N1_DBC_AD9N_64, AH6 IO_T1U_N12_64, AH7 IO_L9N_T1L_N5_AD12N_64, AH8 IO_L9P_T1L_N4_AD12P_64, AH9 IO_L7N_T1L_N1_QBC_AD13N_64
part E pins: H1 IO_L8N_T1L_N3_AD5N_65, H2 IO_T1U_N12_65, H3 IO_L10N_T1U_N7_QBC_AD4N_65, H4 IO_L10P_T1U_N6_QBC_AD4P_65, H5 VCCO_65, H6 IO_L20N_T3L_N3_AD1N_65, H7 IO_L21N_T3L_N5_AD8N_65, H8 IO_L24N_T3U_N11_PERSTN0_65, H9 IO_L24P_T3U_N10_PERSTN1_I2C_SDA_65, J1 IO_L8P_T1L_N2_AD5P_65, J2 IO_L9N_T1L_N5_AD12N_65, J3 VCCO_65, J4 IO_L19N_T3L_N1_DBC_AD9N_65, J5 IO_L19P_T3L_N0_DBC_AD9P_65, J6 IO_L20P_T3L_N2_AD1P_65, J7 IO_L21P_T3L_N4_AD8P_65, J9 IO_L23N_T3U_N9_65, K1 IO_L7N_T1L_N1_QBC_AD13N_65, K2 IO_L9P_T1L_N4_AD12P_65, K3 IO_L11N_T1U_N9_GC_65, K4 IO_L11P_T1U_N8_GC_65, K5 IO_T3U_N12_65, K7 IO_L22N_T3U_N7_DBC_AD0N_65, K8 IO_L22P_T3U_N6_DBC_AD0P_65, K9 IO_L23P_T3U_N8_I2C_SCLK_65, L1 IO_L7P_T1L_N0_QBC_AD13P_65, L2 IO_L12N_T1U_N11_GC_65, L3 IO_L12P_T1U_N10_GC_65, L4 VCCO_65, L5 IO_L14N_T2L_N3_GC_65, L6 IO_L13N_T2L_N1_GC_QBC_65, L7 IO_L13P_T2L_N0_GC_QBC_65, L8 IO_L18N_T2U_N11_AD2N_65, M6 IO_L14P_T2L_N2_GC_65, M8 IO_L18P_T2U_N10_AD2P_65, N6 IO_L15N_T2L_N5_AD11N_65, N7 IO_L15P_T2L_N4_AD11P_65, N8 IO_L17N_T2U_N9_AD10N_65, N9 IO_L17P_T2U_N8_AD10P_65, P6 IO_L16N_T2U_N7_QBC_AD3N_65, P7 IO_L16P_T2U_N6_QBC_AD3P_65, P9 IO_T2U_N12_65, R6 IO_L6P_T0U_N10_AD6P_65, R7 IO_L5P_T0U_N8_AD14P_65, R8 IO_L4P_T0U_N6_DBC_AD7P_SMBALERT_65, R9 VREF_65, T6 IO_L6N_T0U_N11_AD6N_65, T7 IO_L5N_T0U_N9_AD14N_65, T8 IO_L4N_T0U_N7_DBC_AD7N_65, U8 IO_L3P_T0L_N4_AD15P_65, U9 IO_L2P_T0L_N2_65, V8 IO_L3N_T0L_N5_AD15N_65, V9 IO_L2N_T0L_N3_65, W8 IO_L1P_T0L_N0_DBC_65, W9 IO_T0U_N12_VRP_65, Y8 IO_L1N_T0L_N1_DBC_65
part F pins: A1 IO_L8N_T1L_N3_AD5N_66, A2 IO_L8P_T1L_N2_AD5P_66, A3 IO_L9N_T1L_N5_AD12N_66, A4 IO_L10N_T1U_N7_QBC_AD4N_66, A5 IO_L19N_T3L_N1_DBC_AD9N_66, A6 IO_L21N_T3L_N5_AD8N_66, A7 IO_L21P_T3L_N4_AD8P_66, A8 IO_L23N_T3U_N9_66, A9 IO_L23P_T3U_N8_66, B1 IO_L7N_T1L_N1_QBC_AD13N_66, B3 IO_L9P_T1L_N4_AD12P_66, B4 IO_L10P_T1U_N6_QBC_AD4P_66, B5 IO_L19P_T3L_N0_DBC_AD9P_66, B6 IO_L20N_T3L_N3_AD1N_66, B7 VCCO_66, B8 IO_L22N_T3U_N7_DBC_AD0N_66, B9 IO_L24N_T3U_N11_66, C1 IO_L7P_T1L_N0_QBC_AD13P_66, C2 IO_L12N_T1U_N11_GC_66, C3 IO_L12P_T1U_N10_GC_66, C4 IO_L11N_T1U_N9_GC_66, C6 IO_L20P_T3L_N2_AD1P_66, C7 IO_T3U_N12_66, C8 IO_L22P_T3U_N6_DBC_AD0P_66, C9 IO_L24P_T3U_N10_66, D1 IO_L2N_T0L_N3_66, D2 IO_T1U_N12_66, D3 VCCO_66, D4 IO_L11P_T1U_N8_GC_66, D5 IO_L14N_T2L_N3_GC_66, D6 IO_L13N_T2L_N1_GC_QBC_66, D7 IO_L13P_T2L_N0_GC_QBC_66, D9 IO_L18N_T2U_N11_AD2N_66, E1 IO_L2P_T0L_N2_66, E2 IO_L3N_T0L_N5_AD15N_66, E3 IO_L5N_T0U_N9_AD14N_66, E4 IO_L5P_T0U_N8_AD14P_66, E5 IO_L14P_T2L_N2_GC_66, E6 VCCO_66, E7 IO_T2U_N12_66, E8 IO_L17N_T2U_N9_AD10N_66, E9 IO_L18P_T2U_N10_AD2P_66, F1 IO_L1N_T0L_N1_DBC_66, F2 IO_L3P_T0L_N4_AD15P_66, F3 IO_L4N_T0U_N7_DBC_AD7N_66, F5 IO_L6N_T0U_N11_AD6N_66, F6 IO_L15N_T2L_N5_AD11N_66, F7 IO_L16N_T2U_N7_QBC_AD3N_66, F8 IO_L17P_T2U_N8_AD10P_66, G1 IO_L1P_T0L_N0_DBC_66, G3 IO_L4P_T0U_N6_DBC_AD7P_66, G4 IO_T0U_N12_VRP_66, G5 IO_L6P_T0U_N10_AD6P_66, G6 IO_L15P_T2L_N4_AD11P_66, G8 IO_L16P_T2U_N6_QBC_AD3P_66, G9 VREF_66
part G pins: A21 PS_MGTREFCLK3P_505, A22 PS_MGTREFCLK3N_505, A25 PS_MGTRRXP3_505, A26 PS_MGTRRXN3_505, B23 PS_MGTRTXP3_505, B24 PS_MGTRTXN3_505, B27 PS_MGTRRXP2_505, B28 PS_MGTRRXN2_505, C21 PS_MGTREFCLK2P_505, C22 PS_MGTREFCLK2N_505, C25 PS_MGTRTXP2_505, C26 PS_MGTRTXN2_505, D23 PS_MGTRTXP1_505, D24 PS_MGTRTXN1_505, D27 PS_MGTRRXP1_505, D28 PS_MGTRRXN1_505, E21 PS_MGTREFCLK1P_505, E22 PS_MGTREFCLK1N_505, E25 PS_MGTRTXP0_505, E26 PS_MGTRTXN0_505, F22 PS_MGTRREF_505, F23 PS_MGTREFCLK0P_505, F24 PS_MGTREFCLK0N_505, F27 PS_MGTRRXP0_505, F28 PS_MGTRRXN0_505, N1 NC, N2 NC, N3 NC, N4 NC, P1 NC, P2 NC, R3 NC, R4 NC, T1 NC, T2 NC, U3 NC, U4 NC, V1 NC, V2 NC, V5 NC, V6 NC, W3 NC, W4 NC, Y1 NC, Y2 NC, Y5 NC, Y6 NC
part H pins: A16 PS_MIO57, A17 PS_MIO62, A18 PS_MIO65, A19 PS_MIO75, AB17 VCCO_PSIO0_500, AB18 PS_MIO23, AB19 PS_MIO24, AB20 PS_MIO22, AB21 PS_MIO25, AC16 PS_MIO9, AC17 PS_MIO12, AC18 PS_MIO17, AC19 PS_MIO18, AC21 PS_MIO21, AD16 PS_MIO5, AD17 PS_MIO10, AD19 PS_MIO20, AE16 VCCO_PSIO0_500, AE17 PS_MIO11, AE18 PS_MIO15, AE19 PS_MIO19, AF15 PS_MIO2, AF16 PS_MIO6, AF17 PS_MIO8, AF18 PS_MIO16, AG15 PS_MIO0, AG16 PS_MIO1, AG17 VCCO_PSIO0_500, AG18 PS_MIO14, AH15 PS_MIO3, AH16 PS_MIO4, AH17 PS_MIO7, AH18 PS_MIO13, B16 PS_MIO55, B18 PS_MIO67, B19 PS_MIO71, B20 PS_MIO76, C16 PS_MIO56, C17 PS_MIO60, C18 PS_MIO68, C19 PS_MIO70, D16 PS_MIO53, D17 PS_MIO61, D18 VCCO_PSIO2_502, D19 PS_MIO69, D20 PS_MIO74, E17 PS_MIO59, E18 PS_MIO63, E19 PS_MIO64, F16 PS_MIO30, F17 PS_MIO54, F18 PS_MIO58, F20 PS_MIO77, G16 PS_MIO29, G17 VCCO_PSIO2_502, G18 PS_MIO52, G19 PS_MIO66, G20 PS_MIO72, G21 PS_MIO73, H16 PS_MIO31, H17 PS_MIO35, H18 PS_MIO38, H19 PS_MIO39, H20 VCCO_PSIO1_501, H21 PS_MIO47, J15 PS_MIO27, J16 PS_MIO32, J17 PS_MIO37, J19 PS_MIO41, J20 PS_MIO44, J21 PS_MIO48, K15 PS_MIO28, K17 PS_MIO36, K18 PS_MIO40, K19 PS_MIO43, K20 PS_MIO45, L15 PS_MIO26, L16 PS_MIO33, L17 PS_MIO34, L18 PS_MIO42, L19 VCCO_PSIO1_501, L20 PS_MIO46, L21 PS_MIO51, M18 PS_MIO49, M19 PS_MIO50
part I pins: AA22 PS_DDR_A8, AA23 PS_DDR_A7, AA25 PS_DDR_A10, AA26 PS_DDR_A11, AA27 PS_DDR_A5, AA28 PS_DDR_A3, AB22 VCCO_PSDDR_504, AB23 PS_DDR_A9, AB24 PS_DDR_A14, AB25 PS_DDR_A12, AB26 PS_DDR_A13, AB28 PS_DDR_A2, AC22 PS_DDR_A17_CAS#, AC23 PS_DDR_A16_WE#, AC24 PS_DDR_A15, AC26 PS_DDR_DQ16, AC27 PS_DDR_DQ28, AC28 PS_DDR_DQ31, AD20 PS_DDR_DQ2, AD21 PS_DDR_DQ0, AD22 PS_DDR_DQ11, AD23 VCCO_PSDDR_504, AD24 PS_DDR_DQ19, AD25 PS_DDR_DQ18, AD26 PS_DDR_DQ17, AD27 PS_DDR_DQ29, AD28 PS_DDR_DQ30, AE20 PS_DDR_DQ1, AE22 PS_DDR_DQ10, AE23 PS_DDR_DM1, AE24 PS_DDR_DQ14, AE25 PS_DDR_DM2, AE27 PS_DDR_DQS_P3, AE28 PS_DDR_DM3, AF20 PS_DDR_DQ3, AF21 PS_DDR_DQS_P0, AF22 PS_DDR_DQ8, AF23 PS_DDR_DQS_P1, AF24 VCCO_PSDDR_504, AF25 PS_DDR_DQS_P2, AF26 PS_DDR_DQS_N2, AF27 PS_DDR_DQS_N3, AF28 PS_DDR_DQ26, AG19 PS_DDR_DQ7, AG20 PS_DDR_DM0, AG21 PS_DDR_DQS_N0, AG23 PS_DDR_DQS_N1, AG24 PS_DDR_DQ15, AG25 PS_DDR_DQ23, AG26 PS_DDR_DQ20, AG28 PS_DDR_DQ27, AH19 PS_DDR_DQ6, AH20 PS_DDR_DQ5, AH21 PS_DDR_DQ4, AH22 PS_DDR_DQ9, AH23 PS_DDR_DQ12, AH24 PS_DDR_DQ13, AH25 PS_DDR_DQ21, AH26 PS_DDR_DQ22, AH27 PS_DDR_DQ24, AH28 PS_DDR_DQ25, G25 PS_DDR_DQ61, G26 PS_DDR_DQ60, H22 PS_DDR_DQ45, H23 PS_DDR_DM5, H24 PS_DDR_DQ40, H26 PS_DDR_DM7, H27 PS_DDR_DQ59, H28 PS_DDR_DQ58, J22 PS_DDR_DQ44, J24 PS_DDR_DQ41, J25 PS_DDR_DQ63, J26 PS_DDR_DQS_P7, J27 PS_DDR_DQS_N7, J28 PS_DDR_DQ56, K22 PS_DDR_DQ46, K23 PS_DDR_DQS_N5, K24 PS_DDR_DQ43, K25 PS_DDR_DQ62, K27 PS_DDR_DQ57, K28 PS_DDR_DQ52, L22 PS_DDR_DQ47, L23 PS_DDR_DQS_P5, L25 PS_DDR_DQ50, L26 PS_DDR_DQ51, L27 PS_DDR_DM6, L28 PS_DDR_DQ53, M23 PS_DDR_DQS_N4, M24 PS_DDR_DQ42, M25 PS_DDR_DQ48, M26 PS_DDR_DQ49, M28 PS_DDR_DQ54, N22 PS_DDR_DQ35, N23 PS_DDR_DQS_P4, N24 PS_DDR_DQ39, N26 PS_DDR_DQS_P6, N27 PS_DDR_DQS_N6, N28 PS_DDR_DQ55, P22 PS_DDR_DQ34, P23 VCCO_PSDDR_504, P24 PS_DDR_DQ37, P25 PS_DDR_DQ70, P26 PS_DDR_DQ68, P27 PS_DDR_DQ67, P28 PS_DDR_DQ66, R22 PS_DDR_DQ33, R23 PS_DDR_DM4, R24 PS_DDR_DQ38, R25 PS_DDR_DQ69, R27 PS_DDR_DQS_P8, R28 PS_DDR_DQ65, T22 PS_DDR_DQ32, T23 PS_DDR_DQ36, T24 VCCO_PSDDR_504, T25 PS_DDR_DQ71, T26 PS_DDR_DM8, T27 PS_DDR_DQS_N8, T28 PS_DDR_DQ64, U23 PS_DDR_RAM_RST_N, U24 PS_DDR_ZQ, U25 PS_DDR_ALERT_N, U26 PS_DDR_ODT1, U28 PS_DDR_ODT0, V22 PS_DDR_BG1, V23 PS_DDR_BA0, V24 PS_DDR_PARITY, V25 VCCO_PSDDR_504, V26 PS_DDR_CS_N1, V27 PS_DDR_CKE1, V28 PS_DDR_CKE0, W22 PS_DDR_BA1, W24 PS_DDR_BG0, W25 PS_DDR_CK_P0, W26 PS_DDR_CK_N0, W27 PS_DDR_CS_N0, W28 PS_DDR_A0, Y22 PS_DDR_A6, Y23 PS_DDR_ACT_N_RAS#, Y24 PS_DDR_CK_P1, Y25 PS_DDR_CK_N1, Y26 VCCO_PSDDR_504, Y27 PS_DDR_A4, Y28 PS_DDR_A1
part J pins: A23 PS_MGTRAVTT, AA15 VCC_PSINTFP, AA16 VCC_PSINTFP, AA17 VCC_PSINTFP, AA18 VCC_PSINTFP, AA20 VCC_PSINTFP_DDR, AA21 VCC_PSINTFP_DDR, AB16 VCC_PSINTFP, B22 PS_MGTRAVCC, C23 PS_MGTRAVTT, D22 PS_MGTRAVCC, D25 PS_MGTRAVTT, E23 PS_MGTRAVTT, K10 VCCINT_IO, L10 VCCINT_IO, L11 VCCBRAM, L12 VCCBRAM, M9 VCCINT_IO, M10 VCCINT_IO, M11 VCCBRAM, M12 VCCBRAM, M13 VCCAUX_IO, M14 VCCAUX_IO, M15 VCCAUX_IO, M16 VCCAUX, N11 VCCINT, N13 VCCINT, N15 VCCINT, N16 VCCAUX, P4 NC, P10 VCCINT, P14 VCCINT, P15 VCCINT, R10 VCCINT, R11 VCCINT, R14 VCCINT, T4 NC, T11 VCCINT, T15 VCCINT, T16 VCC_PSPLL, T17 VCC_PSPLL, T18 VCC_PSPLL, U5 NC, U10 VCCINT, U14 VCCINT, U15 VCCINT, U16 VCC_PSDDR_PLL, U18 VCC_PSDDR_PLL, U19 VCC_PSAUX, U20 VCC_PSAUX, U21 RSVDGND, V4 NC, V10 VCCINT, V11 VCCINT, V12 VCCINT, V14 VCCINT, V16 VCC_PSINTLP, V17 VCC_PSINTLP, V18 VCC_PSINTLP, V19 VCC_PSAUX, V20 RSVDGND, V21 RSVDGND, W5 NC, W15 VCC_PSINTLP, W16 VCC_PSINTLP, W17 VCC_PSINTLP, W19 VCC_PSAUX, W20 GND_PSADC, W21 RSVDGND, Y4 NC, Y15 VCC_PSINTFP, Y17 VCC_PSINTFP, Y18 VCC_PSBATT, Y19 VCC_PSINTFP_DDR, Y20 VCC_PSADC, Y21 RSVDGND
part K pins: A20 GND, A24 GND, A27 GND, A28 GND, AA1 GND, AA2 GND, AA3 GND, AA4 GND, AA5 GND, AA6 GND, AA9 GND, AA19 GND, AA24 GND, AB12 GND, AB27 GND, AC15 GND, AC20 GND, AC25 GND, AD3 GND, AD18 GND, AE1 GND, AE6 GND, AE11 GND, AE21 GND, AE26 GND, AF4 GND, AF9 GND, AF14 GND, AF19 GND, AG2 GND, AG22 GND, AG27 GND, AH5 GND, B2 GND, B17 GND, B21 GND, B25 GND, B26 GND, C5 GND, C10 GND, C20 GND, C24 GND, C27 GND, C28 GND, D8 GND, D13 GND, D21 GND, D26 GND, E16 GND, E20 GND, E24 GND, E27 GND, E28 GND, F4 GND, F9 GND, F19 GND, F21 GND, F25 GND, F26 GND, G2 GND, G7 GND, G12 GND, G22 GND, G23 GND, G24 GND, G27 GND, G28 GND, H10 GND, H15 GND, H25 GND, J8 GND, J13 GND, J18 GND, J23 GND, K6 GND, K11 GND, K16 GND, K21 GND, K26 GND, L9 GND, L24 GND, M1 GND, M2 GND, M3 GND, M4 GND, M5 GND, M7 GND, M22 GND, M27 GND, N5 GND, N10 GND, N12 GND, N14 GND, N20 GND, N25 GND, P3 GND, P5 GND, P8 GND, P11 GND, R1 GND, R2 GND, R5 GND, R15 GND, R21 GND, R26 GND, T3 GND, T5 GND, T9 GND, T10 GND, T14 GND, T19 GND, U1 GND, U2 GND, U6 GND, U11 GND, U17 GND, U22 GND, U27 GND, V3 GND, V7 GND, V13 GND, V15 GND, W1 GND, W2 GND, W6 GND, W18 GND, W23 GND, Y3 GND, Y7 GND, Y11 GND, Y16 GND
part A text: XCZU3EG-SFVC784; PL_BANK0; PS_CONFIG_BANK503; RTC XTAL
part B text: XCZU3EG-SFVC784; Bank44; Bank24
part C text: XCZU3EG-SFVC784; Bank25; Bank26
part D text: XCZU3EG-SFVC784; Bank64
part E text: XCZU3EG-SFVC784; Bank65
part F text: XCZU3EG-SFVC784; Bank66
part G text: XCZU3EG-SFVC784; MGT
part H text: XCZU3EG-SFVC784; PS_BANK500; PS_BANK501; PS_BANK502
part I text: XCZU3EG-SFVC784; DDR504
part J text: XCZU3EG-SFVC784; POWER PINS; EV SERIES; VCCINT_VCU
part K text: XCZU3EG-SFVC784; GND PINS

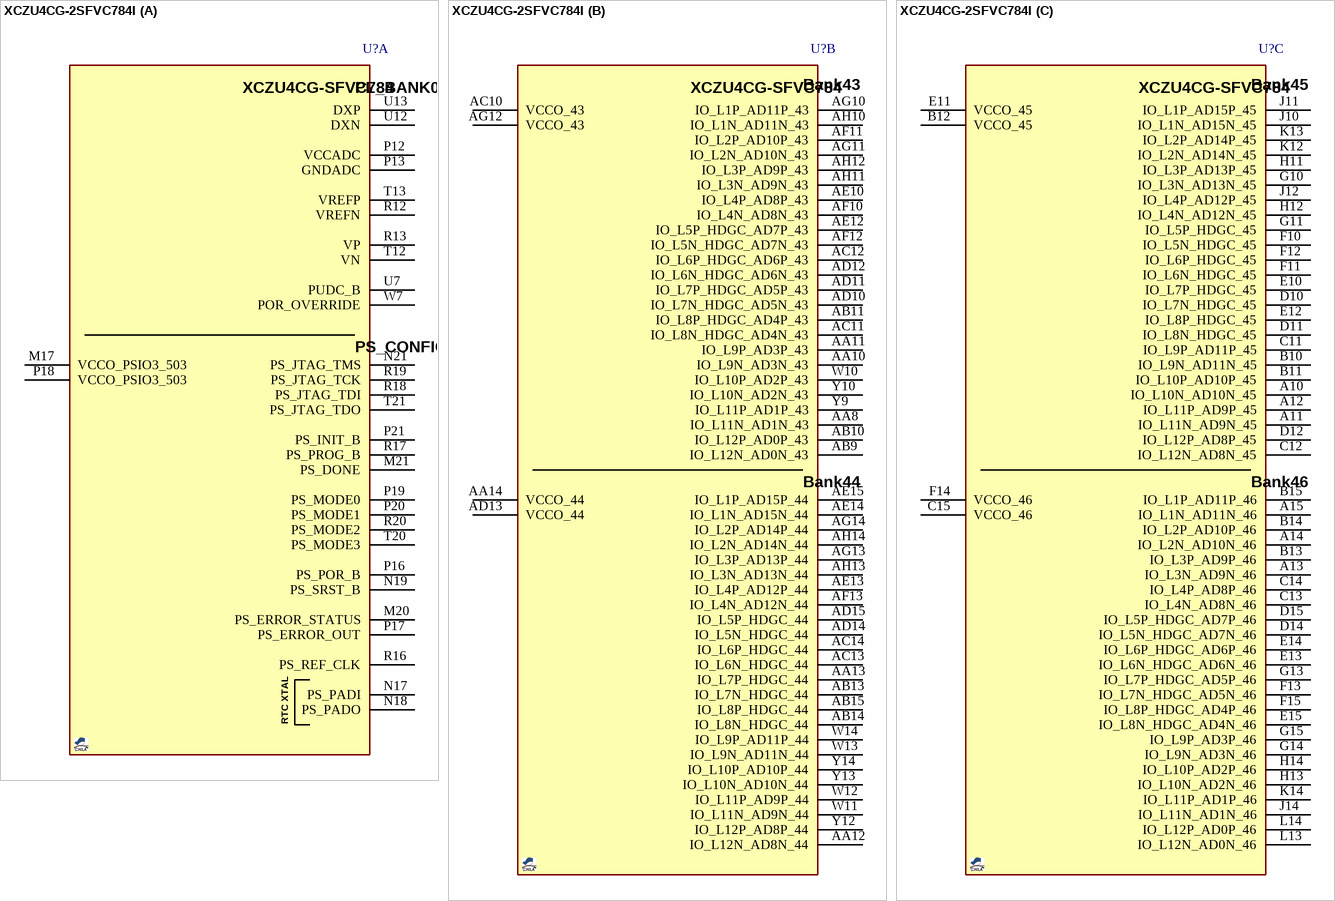
[diagram p15: symbol XCZU4CG-2SFVC784I]

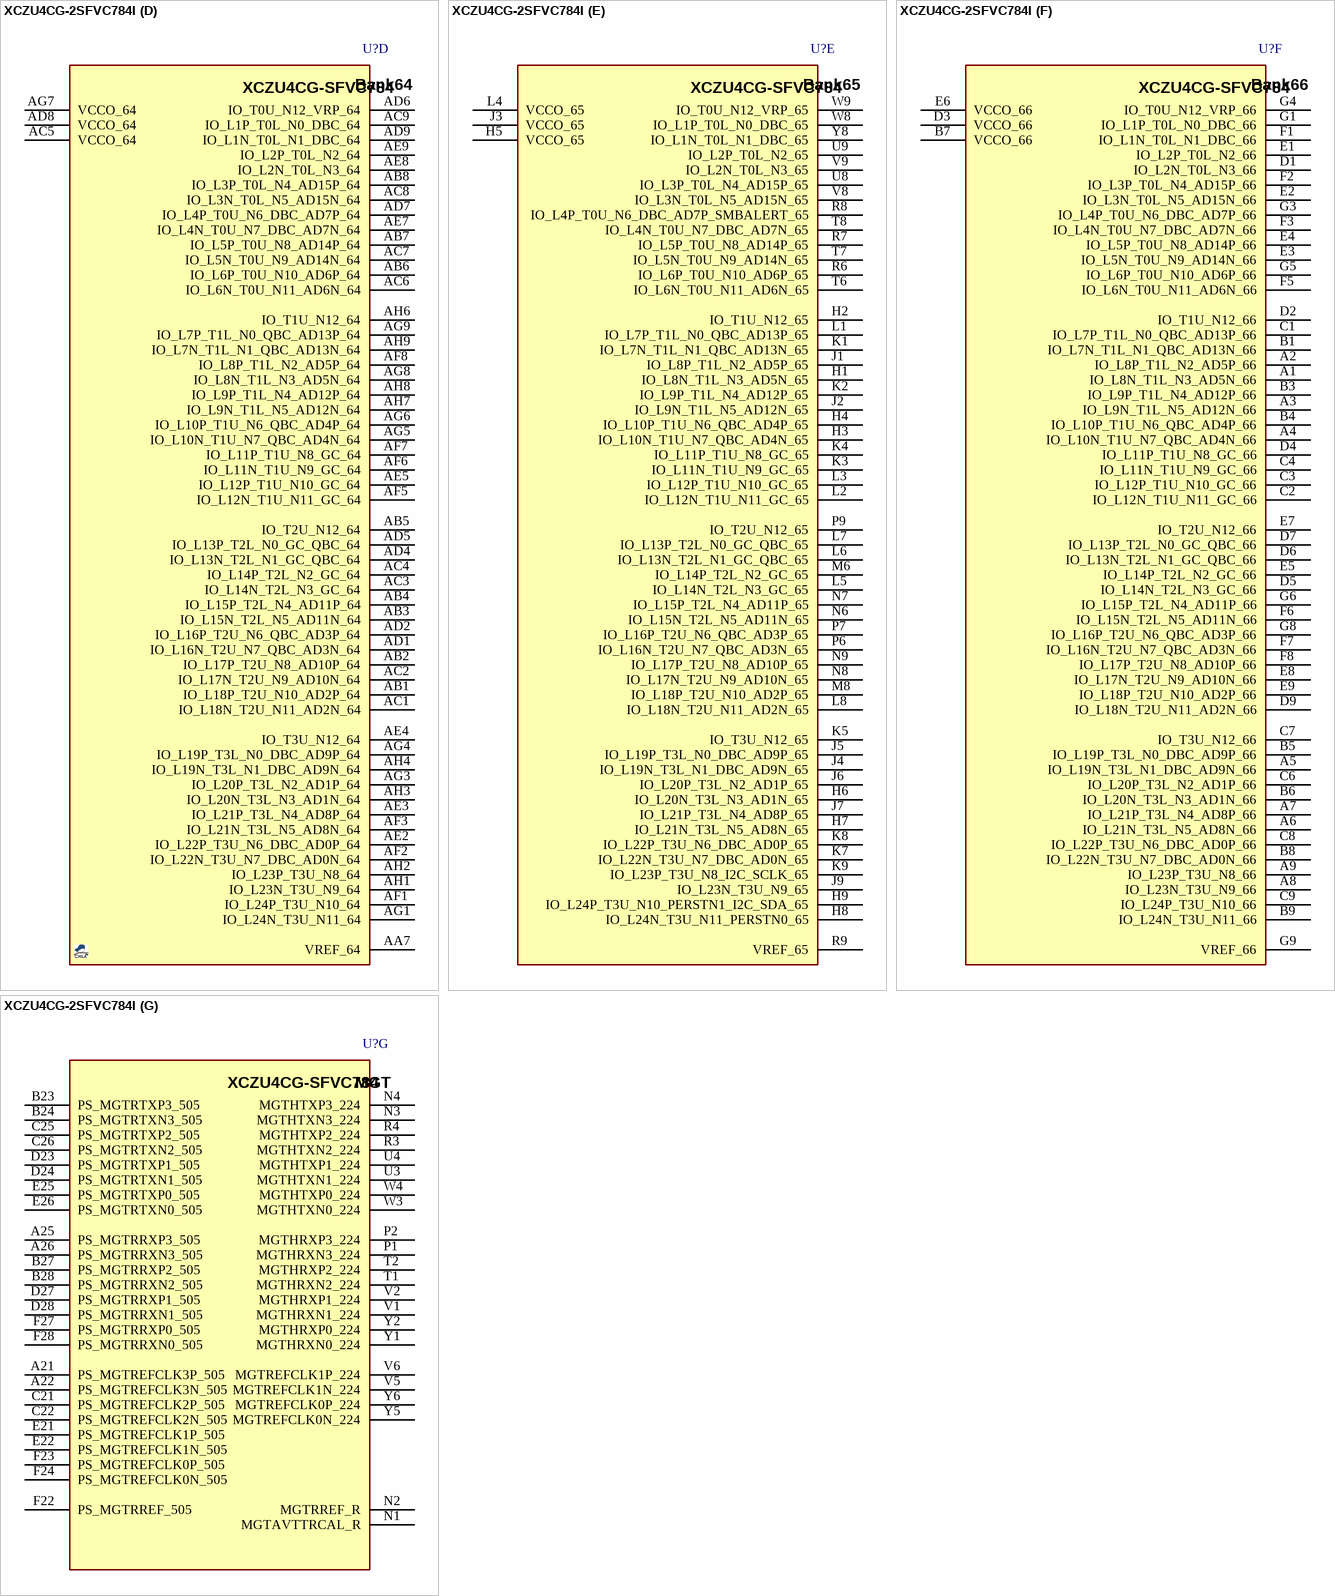
[diagram p16: symbol XCZU4CG-2SFVC784I]

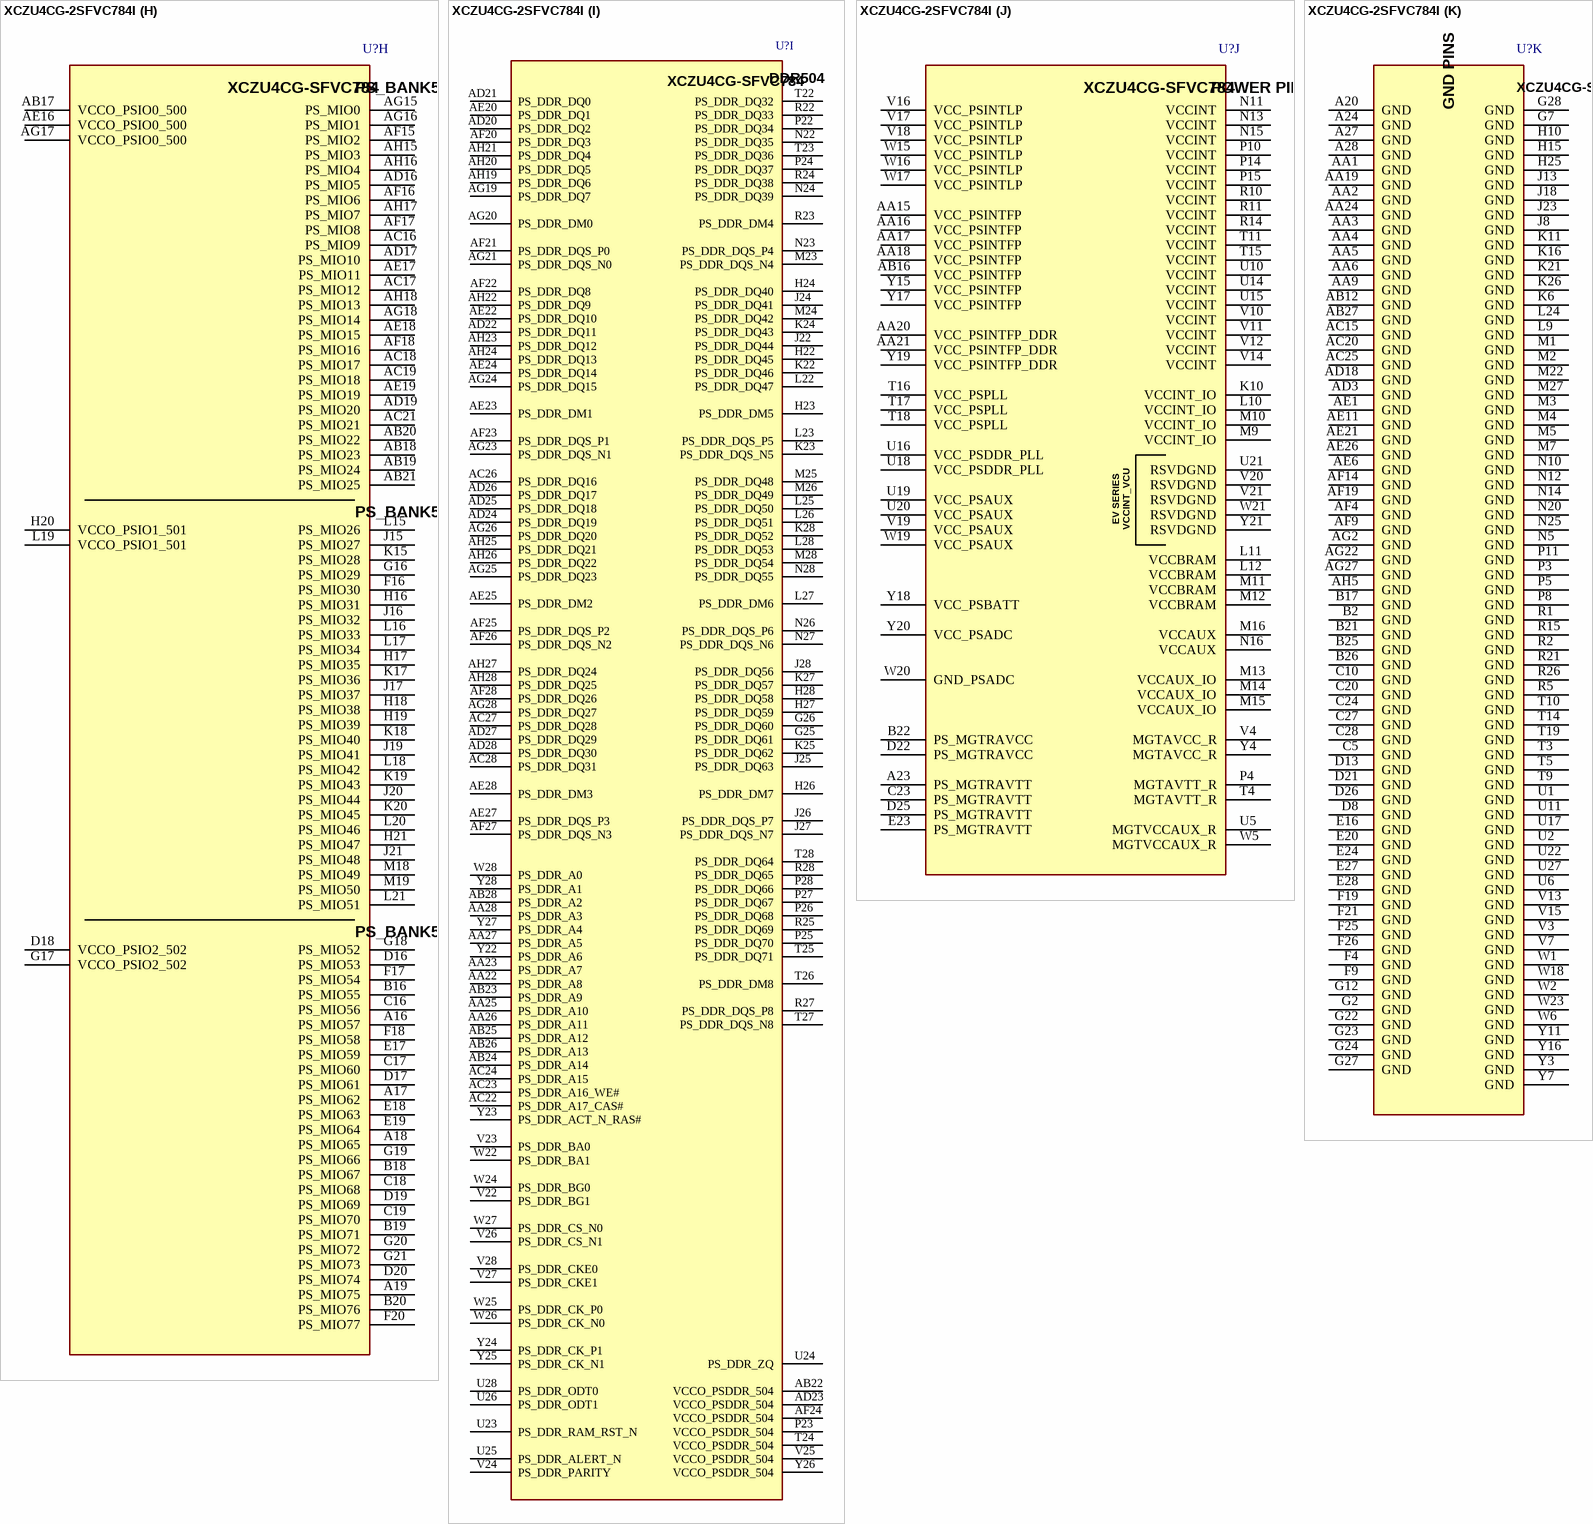
[diagram p17: symbol XCZU4CG-2SFVC784I]

## XCZU4CG-2SFVC784I
designator U?, comment XCZU4CG-C784I  (value not drawn)
SoC Zynq UltraScale+ MPSoC; MANF: XILINX; MANF_P#: XCZU4CG-2SFVC784I; VALUE: XCZU4CG-C784I
footprint BGA80_784_S23
part A pins: M17 VCCO_PSIO3_503, M20 PS_ERROR_STATUS, M21 PS_DONE, N17 PS_PADI, N18 PS_PADO, N19 PS_SRST_B, N21 PS_JTAG_TMS, P12 VCCADC, P13 GNDADC, P16 PS_POR_B, P17 PS_ERROR_OUT, P18 VCCO_PSIO3_503, P19 PS_MODE0, P20 PS_MODE1, P21 PS_INIT_B, R12 VREFN, R13 VP, R16 PS_REF_CLK, R17 PS_PROG_B, R18 PS_JTAG_TDI, R19 PS_JTAG_TCK, R20 PS_MODE2, T12 VN, T13 VREFP, T20 PS_MODE3, T21 PS_JTAG_TDO, U7 PUDC_B, U12 DXN, U13 DXP, W7 POR_OVERRIDE
part B pins: AA8 IO_L11N_AD1N_43, AA10 IO_L9N_AD3N_43, AA11 IO_L9P_AD3P_43, AA12 IO_L12N_AD8N_44, AA13 IO_L7P_HDGC_44, AA14 VCCO_44, AB9 IO_L12N_AD0N_43, AB10 IO_L12P_AD0P_43, AB11 IO_L8P_HDGC_AD4P_43, AB13 IO_L7N_HDGC_44, AB14 IO_L8N_HDGC_44, AB15 IO_L8P_HDGC_44, AC10 VCCO_43, AC11 IO_L8N_HDGC_AD4N_43, AC12 IO_L6P_HDGC_AD6P_43, AC13 IO_L6N_HDGC_44, AC14 IO_L6P_HDGC_44, AD10 IO_L7N_HDGC_AD5N_43, AD11 IO_L7P_HDGC_AD5P_43, AD12 IO_L6N_HDGC_AD6N_43, AD13 VCCO_44, AD14 IO_L5N_HDGC_44, AD15 IO_L5P_HDGC_44, AE10 IO_L4P_AD8P_43, AE12 IO_L5P_HDGC_AD7P_43, AE13 IO_L4P_AD12P_44, AE14 IO_L1N_AD15N_44, AE15 IO_L1P_AD15P_44, AF10 IO_L4N_AD8N_43, AF11 IO_L2P_AD10P_43, AF12 IO_L5N_HDGC_AD7N_43, AF13 IO_L4N_AD12N_44, AG10 IO_L1P_AD11P_43, AG11 IO_L2N_AD10N_43, AG12 VCCO_43, AG13 IO_L3P_AD13P_44, AG14 IO_L2P_AD14P_44, AH10 IO_L1N_AD11N_43, AH11 IO_L3N_AD9N_43, AH12 IO_L3P_AD9P_43, AH13 IO_L3N_AD13N_44, AH14 IO_L2N_AD14N_44, W10 IO_L10P_AD2P_43, W11 IO_L11N_AD9N_44, W12 IO_L11P_AD9P_44, W13 IO_L9N_AD11N_44, W14 IO_L9P_AD11P_44, Y9 IO_L11P_AD1P_43, Y10 IO_L10N_AD2N_43, Y12 IO_L12P_AD8P_44, Y13 IO_L10N_AD10N_44, Y14 IO_L10P_AD10P_44
part C pins: A10 IO_L10N_AD10N_45, A11 IO_L11N_AD9N_45, A12 IO_L11P_AD9P_45, A13 IO_L3N_AD9N_46, A14 IO_L2N_AD10N_46, A15 IO_L1N_AD11N_46, B10 IO_L9N_AD11N_45, B11 IO_L10P_AD10P_45, B12 VCCO_45, B13 IO_L3P_AD9P_46, B14 IO_L2P_AD10P_46, B15 IO_L1P_AD11P_46, C11 IO_L9P_AD11P_45, C12 IO_L12N_AD8N_45, C13 IO_L4N_AD8N_46, C14 IO_L4P_AD8P_46, C15 VCCO_46, D10 IO_L7N_HDGC_45, D11 IO_L8N_HDGC_45, D12 IO_L12P_AD8P_45, D14 IO_L5N_HDGC_AD7N_46, D15 IO_L5P_HDGC_AD7P_46, E10 IO_L7P_HDGC_45, E11 VCCO_45, E12 IO_L8P_HDGC_45, E13 IO_L6N_HDGC_AD6N_46, E14 IO_L6P_HDGC_AD6P_46, E15 IO_L8N_HDGC_AD4N_46, F10 IO_L5N_HDGC_45, F11 IO_L6N_HDGC_45, F12 IO_L6P_HDGC_45, F13 IO_L7N_HDGC_AD5N_46, F14 VCCO_46, F15 IO_L8P_HDGC_AD4P_46, G10 IO_L3N_AD13N_45, G11 IO_L5P_HDGC_45, G13 IO_L7P_HDGC_AD5P_46, G14 IO_L9N_AD3N_46, G15 IO_L9P_AD3P_46, H11 IO_L3P_AD13P_45, H12 IO_L4N_AD12N_45, H13 IO_L10N_AD2N_46, H14 IO_L10P_AD2P_46, J10 IO_L1N_AD15N_45, J11 IO_L1P_AD15P_45, J12 IO_L4P_AD12P_45, J14 IO_L11N_AD1N_46, K12 IO_L2N_AD14N_45, K13 IO_L2P_AD14P_45, K14 IO_L11P_AD1P_46, L13 IO_L12N_AD0N_46, L14 IO_L12P_AD0P_46
part D pins: AA7 VREF_64, AB1 IO_L18P_T2U_N10_AD2P_64, AB2 IO_L17P_T2U_N8_AD10P_64, AB3 IO_L15N_T2L_N5_AD11N_64, AB4 IO_L15P_T2L_N4_AD11P_64, AB5 IO_T2U_N12_64, AB6 IO_L6P_T0U_N10_AD6P_64, AB7 IO_L5P_T0U_N8_AD14P_64, AB8 IO_L3P_T0L_N4_AD15P_64, AC1 IO_L18N_T2U_N11_AD2N_64, AC2 IO_L17N_T2U_N9_AD10N_64, AC3 IO_L14N_T2L_N3_GC_64, AC4 IO_L14P_T2L_N2_GC_64, AC5 VCCO_64, AC6 IO_L6N_T0U_N11_AD6N_64, AC7 IO_L5N_T0U_N9_AD14N_64, AC8 IO_L3N_T0L_N5_AD15N_64, AC9 IO_L1P_T0L_N0_DBC_64, AD1 IO_L16N_T2U_N7_QBC_AD3N_64, AD2 IO_L16P_T2U_N6_QBC_AD3P_64, AD4 IO_L13N_T2L_N1_GC_QBC_64, AD5 IO_L13P_T2L_N0_GC_QBC_64, AD6 IO_T0U_N12_VRP_64, AD7 IO_L4P_T0U_N6_DBC_AD7P_64, AD8 VCCO_64, AD9 IO_L1N_T0L_N1_DBC_64, AE2 IO_L22P_T3U_N6_DBC_AD0P_64, AE3 IO_L21P_T3L_N4_AD8P_64, AE4 IO_T3U_N12_64, AE5 IO_L12P_T1U_N10_GC_64, AE7 IO_L4N_T0U_N7_DBC_AD7N_64, AE8 IO_L2N_T0L_N3_64, AE9 IO_L2P_T0L_N2_64, AF1 IO_L24P_T3U_N10_64, AF2 IO_L22N_T3U_N7_DBC_AD0N_64, AF3 IO_L21N_T3L_N5_AD8N_64, AF5 IO_L12N_T1U_N11_GC_64, AF6 IO_L11N_T1U_N9_GC_64, AF7 IO_L11P_T1U_N8_GC_64, AF8 IO_L8P_T1L_N2_AD5P_64, AG1 IO_L24N_T3U_N11_64, AG3 IO_L20P_T3L_N2_AD1P_64, AG4 IO_L19P_T3L_N0_DBC_AD9P_64, AG5 IO_L10N_T1U_N7_QBC_AD4N_64, AG6 IO_L10P_T1U_N6_QBC_AD4P_64, AG7 VCCO_64, AG8 IO_L8N_T1L_N3_AD5N_64, AG9 IO_L7P_T1L_N0_QBC_AD13P_64, AH1 IO_L23N_T3U_N9_64, AH2 IO_L23P_T3U_N8_64, AH3 IO_L20N_T3L_N3_AD1N_64, AH4 IO_L19N_T3L_N1_DBC_AD9N_64, AH6 IO_T1U_N12_64, AH7 IO_L9N_T1L_N5_AD12N_64, AH8 IO_L9P_T1L_N4_AD12P_64, AH9 IO_L7N_T1L_N1_QBC_AD13N_64
part E pins: H1 IO_L8N_T1L_N3_AD5N_65, H2 IO_T1U_N12_65, H3 IO_L10N_T1U_N7_QBC_AD4N_65, H4 IO_L10P_T1U_N6_QBC_AD4P_65, H5 VCCO_65, H6 IO_L20N_T3L_N3_AD1N_65, H7 IO_L21N_T3L_N5_AD8N_65, H8 IO_L24N_T3U_N11_PERSTN0_65, H9 IO_L24P_T3U_N10_PERSTN1_I2C_SDA_65, J1 IO_L8P_T1L_N2_AD5P_65, J2 IO_L9N_T1L_N5_AD12N_65, J3 VCCO_65, J4 IO_L19N_T3L_N1_DBC_AD9N_65, J5 IO_L19P_T3L_N0_DBC_AD9P_65, J6 IO_L20P_T3L_N2_AD1P_65, J7 IO_L21P_T3L_N4_AD8P_65, J9 IO_L23N_T3U_N9_65, K1 IO_L7N_T1L_N1_QBC_AD13N_65, K2 IO_L9P_T1L_N4_AD12P_65, K3 IO_L11N_T1U_N9_GC_65, K4 IO_L11P_T1U_N8_GC_65, K5 IO_T3U_N12_65, K7 IO_L22N_T3U_N7_DBC_AD0N_65, K8 IO_L22P_T3U_N6_DBC_AD0P_65, K9 IO_L23P_T3U_N8_I2C_SCLK_65, L1 IO_L7P_T1L_N0_QBC_AD13P_65, L2 IO_L12N_T1U_N11_GC_65, L3 IO_L12P_T1U_N10_GC_65, L4 VCCO_65, L5 IO_L14N_T2L_N3_GC_65, L6 IO_L13N_T2L_N1_GC_QBC_65, L7 IO_L13P_T2L_N0_GC_QBC_65, L8 IO_L18N_T2U_N11_AD2N_65, M6 IO_L14P_T2L_N2_GC_65, M8 IO_L18P_T2U_N10_AD2P_65, N6 IO_L15N_T2L_N5_AD11N_65, N7 IO_L15P_T2L_N4_AD11P_65, N8 IO_L17N_T2U_N9_AD10N_65, N9 IO_L17P_T2U_N8_AD10P_65, P6 IO_L16N_T2U_N7_QBC_AD3N_65, P7 IO_L16P_T2U_N6_QBC_AD3P_65, P9 IO_T2U_N12_65, R6 IO_L6P_T0U_N10_AD6P_65, R7 IO_L5P_T0U_N8_AD14P_65, R8 IO_L4P_T0U_N6_DBC_AD7P_SMBALERT_65, R9 VREF_65, T6 IO_L6N_T0U_N11_AD6N_65, T7 IO_L5N_T0U_N9_AD14N_65, T8 IO_L4N_T0U_N7_DBC_AD7N_65, U8 IO_L3P_T0L_N4_AD15P_65, U9 IO_L2P_T0L_N2_65, V8 IO_L3N_T0L_N5_AD15N_65, V9 IO_L2N_T0L_N3_65, W8 IO_L1P_T0L_N0_DBC_65, W9 IO_T0U_N12_VRP_65, Y8 IO_L1N_T0L_N1_DBC_65
part F pins: A1 IO_L8N_T1L_N3_AD5N_66, A2 IO_L8P_T1L_N2_AD5P_66, A3 IO_L9N_T1L_N5_AD12N_66, A4 IO_L10N_T1U_N7_QBC_AD4N_66, A5 IO_L19N_T3L_N1_DBC_AD9N_66, A6 IO_L21N_T3L_N5_AD8N_66, A7 IO_L21P_T3L_N4_AD8P_66, A8 IO_L23N_T3U_N9_66, A9 IO_L23P_T3U_N8_66, B1 IO_L7N_T1L_N1_QBC_AD13N_66, B3 IO_L9P_T1L_N4_AD12P_66, B4 IO_L10P_T1U_N6_QBC_AD4P_66, B5 IO_L19P_T3L_N0_DBC_AD9P_66, B6 IO_L20N_T3L_N3_AD1N_66, B7 VCCO_66, B8 IO_L22N_T3U_N7_DBC_AD0N_66, B9 IO_L24N_T3U_N11_66, C1 IO_L7P_T1L_N0_QBC_AD13P_66, C2 IO_L12N_T1U_N11_GC_66, C3 IO_L12P_T1U_N10_GC_66, C4 IO_L11N_T1U_N9_GC_66, C6 IO_L20P_T3L_N2_AD1P_66, C7 IO_T3U_N12_66, C8 IO_L22P_T3U_N6_DBC_AD0P_66, C9 IO_L24P_T3U_N10_66, D1 IO_L2N_T0L_N3_66, D2 IO_T1U_N12_66, D3 VCCO_66, D4 IO_L11P_T1U_N8_GC_66, D5 IO_L14N_T2L_N3_GC_66, D6 IO_L13N_T2L_N1_GC_QBC_66, D7 IO_L13P_T2L_N0_GC_QBC_66, D9 IO_L18N_T2U_N11_AD2N_66, E1 IO_L2P_T0L_N2_66, E2 IO_L3N_T0L_N5_AD15N_66, E3 IO_L5N_T0U_N9_AD14N_66, E4 IO_L5P_T0U_N8_AD14P_66, E5 IO_L14P_T2L_N2_GC_66, E6 VCCO_66, E7 IO_T2U_N12_66, E8 IO_L17N_T2U_N9_AD10N_66, E9 IO_L18P_T2U_N10_AD2P_66, F1 IO_L1N_T0L_N1_DBC_66, F2 IO_L3P_T0L_N4_AD15P_66, F3 IO_L4N_T0U_N7_DBC_AD7N_66, F5 IO_L6N_T0U_N11_AD6N_66, F6 IO_L15N_T2L_N5_AD11N_66, F7 IO_L16N_T2U_N7_QBC_AD3N_66, F8 IO_L17P_T2U_N8_AD10P_66, G1 IO_L1P_T0L_N0_DBC_66, G3 IO_L4P_T0U_N6_DBC_AD7P_66, G4 IO_T0U_N12_VRP_66, G5 IO_L6P_T0U_N10_AD6P_66, G6 IO_L15P_T2L_N4_AD11P_66, G8 IO_L16P_T2U_N6_QBC_AD3P_66, G9 VREF_66
part G pins: A21 PS_MGTREFCLK3P_505, A22 PS_MGTREFCLK3N_505, A25 PS_MGTRRXP3_505, A26 PS_MGTRRXN3_505, B23 PS_MGTRTXP3_505, B24 PS_MGTRTXN3_505, B27 PS_MGTRRXP2_505, B28 PS_MGTRRXN2_505, C21 PS_MGTREFCLK2P_505, C22 PS_MGTREFCLK2N_505, C25 PS_MGTRTXP2_505, C26 PS_MGTRTXN2_505, D23 PS_MGTRTXP1_505, D24 PS_MGTRTXN1_505, D27 PS_MGTRRXP1_505, D28 PS_MGTRRXN1_505, E21 PS_MGTREFCLK1P_505, E22 PS_MGTREFCLK1N_505, E25 PS_MGTRTXP0_505, E26 PS_MGTRTXN0_505, F22 PS_MGTRREF_505, F23 PS_MGTREFCLK0P_505, F24 PS_MGTREFCLK0N_505, F27 PS_MGTRRXP0_505, F28 PS_MGTRRXN0_505, N1 MGTAVTTRCAL_R, N2 MGTRREF_R, N3 MGTHTXN3_224, N4 MGTHTXP3_224, P1 MGTHRXN3_224, P2 MGTHRXP3_224, R3 MGTHTXN2_224, R4 MGTHTXP2_224, T1 MGTHRXN2_224, T2 MGTHRXP2_224, U3 MGTHTXN1_224, U4 MGTHTXP1_224, V1 MGTHRXN1_224, V2 MGTHRXP1_224, V5 MGTREFCLK1N_224, V6 MGTREFCLK1P_224, W3 MGTHTXN0_224, W4 MGTHTXP0_224, Y1 MGTHRXN0_224, Y2 MGTHRXP0_224, Y5 MGTREFCLK0N_224, Y6 MGTREFCLK0P_224
part H pins: A16 PS_MIO57, A17 PS_MIO62, A18 PS_MIO65, A19 PS_MIO75, AB17 VCCO_PSIO0_500, AB18 PS_MIO23, AB19 PS_MIO24, AB20 PS_MIO22, AB21 PS_MIO25, AC16 PS_MIO9, AC17 PS_MIO12, AC18 PS_MIO17, AC19 PS_MIO18, AC21 PS_MIO21, AD16 PS_MIO5, AD17 PS_MIO10, AD19 PS_MIO20, AE16 VCCO_PSIO0_500, AE17 PS_MIO11, AE18 PS_MIO15, AE19 PS_MIO19, AF15 PS_MIO2, AF16 PS_MIO6, AF17 PS_MIO8, AF18 PS_MIO16, AG15 PS_MIO0, AG16 PS_MIO1, AG17 VCCO_PSIO0_500, AG18 PS_MIO14, AH15 PS_MIO3, AH16 PS_MIO4, AH17 PS_MIO7, AH18 PS_MIO13, B16 PS_MIO55, B18 PS_MIO67, B19 PS_MIO71, B20 PS_MIO76, C16 PS_MIO56, C17 PS_MIO60, C18 PS_MIO68, C19 PS_MIO70, D16 PS_MIO53, D17 PS_MIO61, D18 VCCO_PSIO2_502, D19 PS_MIO69, D20 PS_MIO74, E17 PS_MIO59, E18 PS_MIO63, E19 PS_MIO64, F16 PS_MIO30, F17 PS_MIO54, F18 PS_MIO58, F20 PS_MIO77, G16 PS_MIO29, G17 VCCO_PSIO2_502, G18 PS_MIO52, G19 PS_MIO66, G20 PS_MIO72, G21 PS_MIO73, H16 PS_MIO31, H17 PS_MIO35, H18 PS_MIO38, H19 PS_MIO39, H20 VCCO_PSIO1_501, H21 PS_MIO47, J15 PS_MIO27, J16 PS_MIO32, J17 PS_MIO37, J19 PS_MIO41, J20 PS_MIO44, J21 PS_MIO48, K15 PS_MIO28, K17 PS_MIO36, K18 PS_MIO40, K19 PS_MIO43, K20 PS_MIO45, L15 PS_MIO26, L16 PS_MIO33, L17 PS_MIO34, L18 PS_MIO42, L19 VCCO_PSIO1_501, L20 PS_MIO46, L21 PS_MIO51, M18 PS_MIO49, M19 PS_MIO50
part I pins: AA22 PS_DDR_A8, AA23 PS_DDR_A7, AA25 PS_DDR_A10, AA26 PS_DDR_A11, AA27 PS_DDR_A5, AA28 PS_DDR_A3, AB22 VCCO_PSDDR_504, AB23 PS_DDR_A9, AB24 PS_DDR_A14, AB25 PS_DDR_A12, AB26 PS_DDR_A13, AB28 PS_DDR_A2, AC22 PS_DDR_A17_CAS#, AC23 PS_DDR_A16_WE#, AC24 PS_DDR_A15, AC26 PS_DDR_DQ16, AC27 PS_DDR_DQ28, AC28 PS_DDR_DQ31, AD20 PS_DDR_DQ2, AD21 PS_DDR_DQ0, AD22 PS_DDR_DQ11, AD23 VCCO_PSDDR_504, AD24 PS_DDR_DQ19, AD25 PS_DDR_DQ18, AD26 PS_DDR_DQ17, AD27 PS_DDR_DQ29, AD28 PS_DDR_DQ30, AE20 PS_DDR_DQ1, AE22 PS_DDR_DQ10, AE23 PS_DDR_DM1, AE24 PS_DDR_DQ14, AE25 PS_DDR_DM2, AE27 PS_DDR_DQS_P3, AE28 PS_DDR_DM3, AF20 PS_DDR_DQ3, AF21 PS_DDR_DQS_P0, AF22 PS_DDR_DQ8, AF23 PS_DDR_DQS_P1, AF24 VCCO_PSDDR_504, AF25 PS_DDR_DQS_P2, AF26 PS_DDR_DQS_N2, AF27 PS_DDR_DQS_N3, AF28 PS_DDR_DQ26, AG19 PS_DDR_DQ7, AG20 PS_DDR_DM0, AG21 PS_DDR_DQS_N0, AG23 PS_DDR_DQS_N1, AG24 PS_DDR_DQ15, AG25 PS_DDR_DQ23, AG26 PS_DDR_DQ20, AG28 PS_DDR_DQ27, AH19 PS_DDR_DQ6, AH20 PS_DDR_DQ5, AH21 PS_DDR_DQ4, AH22 PS_DDR_DQ9, AH23 PS_DDR_DQ12, AH24 PS_DDR_DQ13, AH25 PS_DDR_DQ21, AH26 PS_DDR_DQ22, AH27 PS_DDR_DQ24, AH28 PS_DDR_DQ25, G25 PS_DDR_DQ61, G26 PS_DDR_DQ60, H22 PS_DDR_DQ45, H23 PS_DDR_DM5, H24 PS_DDR_DQ40, H26 PS_DDR_DM7, H27 PS_DDR_DQ59, H28 PS_DDR_DQ58, J22 PS_DDR_DQ44, J24 PS_DDR_DQ41, J25 PS_DDR_DQ63, J26 PS_DDR_DQS_P7, J27 PS_DDR_DQS_N7, J28 PS_DDR_DQ56, K22 PS_DDR_DQ46, K23 PS_DDR_DQS_N5, K24 PS_DDR_DQ43, K25 PS_DDR_DQ62, K27 PS_DDR_DQ57, K28 PS_DDR_DQ52, L22 PS_DDR_DQ47, L23 PS_DDR_DQS_P5, L25 PS_DDR_DQ50, L26 PS_DDR_DQ51, L27 PS_DDR_DM6, L28 PS_DDR_DQ53, M23 PS_DDR_DQS_N4, M24 PS_DDR_DQ42, M25 PS_DDR_DQ48, M26 PS_DDR_DQ49, M28 PS_DDR_DQ54, N22 PS_DDR_DQ35, N23 PS_DDR_DQS_P4, N24 PS_DDR_DQ39, N26 PS_DDR_DQS_P6, N27 PS_DDR_DQS_N6, N28 PS_DDR_DQ55, P22 PS_DDR_DQ34, P23 VCCO_PSDDR_504, P24 PS_DDR_DQ37, P25 PS_DDR_DQ70, P26 PS_DDR_DQ68, P27 PS_DDR_DQ67, P28 PS_DDR_DQ66, R22 PS_DDR_DQ33, R23 PS_DDR_DM4, R24 PS_DDR_DQ38, R25 PS_DDR_DQ69, R27 PS_DDR_DQS_P8, R28 PS_DDR_DQ65, T22 PS_DDR_DQ32, T23 PS_DDR_DQ36, T24 VCCO_PSDDR_504, T25 PS_DDR_DQ71, T26 PS_DDR_DM8, T27 PS_DDR_DQS_N8, T28 PS_DDR_DQ64, U23 PS_DDR_RAM_RST_N, U24 PS_DDR_ZQ, U25 PS_DDR_ALERT_N, U26 PS_DDR_ODT1, U28 PS_DDR_ODT0, V22 PS_DDR_BG1, V23 PS_DDR_BA0, V24 PS_DDR_PARITY, V25 VCCO_PSDDR_504, V26 PS_DDR_CS_N1, V27 PS_DDR_CKE1, V28 PS_DDR_CKE0, W22 PS_DDR_BA1, W24 PS_DDR_BG0, W25 PS_DDR_CK_P0, W26 PS_DDR_CK_N0, W27 PS_DDR_CS_N0, W28 PS_DDR_A0, Y22 PS_DDR_A6, Y23 PS_DDR_ACT_N_RAS#, Y24 PS_DDR_CK_P1, Y25 PS_DDR_CK_N1, Y26 VCCO_PSDDR_504, Y27 PS_DDR_A4, Y28 PS_DDR_A1
part J pins: A23 PS_MGTRAVTT, AA15 VCC_PSINTFP, AA16 VCC_PSINTFP, AA17 VCC_PSINTFP, AA18 VCC_PSINTFP, AA20 VCC_PSINTFP_DDR, AA21 VCC_PSINTFP_DDR, AB16 VCC_PSINTFP, B22 PS_MGTRAVCC, C23 PS_MGTRAVTT, D22 PS_MGTRAVCC, D25 PS_MGTRAVTT, E23 PS_MGTRAVTT, K10 VCCINT_IO, L10 VCCINT_IO, L11 VCCBRAM, L12 VCCBRAM, M9 VCCINT_IO, M10 VCCINT_IO, M11 VCCBRAM, M12 VCCBRAM, M13 VCCAUX_IO, M14 VCCAUX_IO, M15 VCCAUX_IO, M16 VCCAUX, N11 VCCINT, N13 VCCINT, N15 VCCINT, N16 VCCAUX, P4 MGTAVTT_R, P10 VCCINT, P14 VCCINT, P15 VCCINT, R10 VCCINT, R11 VCCINT, R14 VCCINT, T4 MGTAVTT_R, T11 VCCINT, T15 VCCINT, T16 VCC_PSPLL, T17 VCC_PSPLL, T18 VCC_PSPLL, U5 MGTVCCAUX_R, U10 VCCINT, U14 VCCINT, U15 VCCINT, U16 VCC_PSDDR_PLL, U18 VCC_PSDDR_PLL, U19 VCC_PSAUX, U20 VCC_PSAUX, U21 RSVDGND, V4 MGTAVCC_R, V10 VCCINT, V11 VCCINT, V12 VCCINT, V14 VCCINT, V16 VCC_PSINTLP, V17 VCC_PSINTLP, V18 VCC_PSINTLP, V19 VCC_PSAUX, V20 RSVDGND, V21 RSVDGND, W5 MGTVCCAUX_R, W15 VCC_PSINTLP, W16 VCC_PSINTLP, W17 VCC_PSINTLP, W19 VCC_PSAUX, W20 GND_PSADC, W21 RSVDGND, Y4 MGTAVCC_R, Y15 VCC_PSINTFP, Y17 VCC_PSINTFP, Y18 VCC_PSBATT, Y19 VCC_PSINTFP_DDR, Y20 VCC_PSADC, Y21 RSVDGND
part K pins: A20 GND, A24 GND, A27 GND, A28 GND, AA1 GND, AA2 GND, AA3 GND, AA4 GND, AA5 GND, AA6 GND, AA9 GND, AA19 GND, AA24 GND, AB12 GND, AB27 GND, AC15 GND, AC20 GND, AC25 GND, AD3 GND, AD18 GND, AE1 GND, AE6 GND, AE11 GND, AE21 GND, AE26 GND, AF4 GND, AF9 GND, AF14 GND, AF19 GND, AG2 GND, AG22 GND, AG27 GND, AH5 GND, B2 GND, B17 GND, B21 GND, B25 GND, B26 GND, C5 GND, C10 GND, C20 GND, C24 GND, C27 GND, C28 GND, D8 GND, D13 GND, D21 GND, D26 GND, E16 GND, E20 GND, E24 GND, E27 GND, E28 GND, F4 GND, F9 GND, F19 GND, F21 GND, F25 GND, F26 GND, G2 GND, G7 GND, G12 GND, G22 GND, G23 GND, G24 GND, G27 GND, G28 GND, H10 GND, H15 GND, H25 GND, J8 GND, J13 GND, J18 GND, J23 GND, K6 GND, K11 GND, K16 GND, K21 GND, K26 GND, L9 GND, L24 GND, M1 GND, M2 GND, M3 GND, M4 GND, M5 GND, M7 GND, M22 GND, M27 GND, N5 GND, N10 GND, N12 GND, N14 GND, N20 GND, N25 GND, P3 GND, P5 GND, P8 GND, P11 GND, R1 GND, R2 GND, R5 GND, R15 GND, R21 GND, R26 GND, T3 GND, T5 GND, T9 GND, T10 GND, T14 GND, T19 GND, U1 GND, U2 GND, U6 GND, U11 GND, U17 GND, U22 GND, U27 GND, V3 GND, V7 GND, V13 GND, V15 GND, W1 GND, W2 GND, W6 GND, W18 GND, W23 GND, Y3 GND, Y7 GND, Y11 GND, Y16 GND
part A text: XCZU4CG-SFVC784; PL_BANK0; PS_CONFIG_BANK503; RTC XTAL
part B text: XCZU4CG-SFVC784; Bank43; Bank44
part C text: XCZU4CG-SFVC784; Bank45; Bank46
part D text: XCZU4CG-SFVC784; Bank64
part E text: XCZU4CG-SFVC784; Bank65
part F text: XCZU4CG-SFVC784; Bank66
part G text: XCZU4CG-SFVC784; MGT
part H text: XCZU4CG-SFVC784; PS_BANK500; PS_BANK501; PS_BANK502
part I text: XCZU4CG-SFVC784; DDR504
part J text: XCZU4CG-SFVC784; POWER PINS; EV SERIES; VCCINT_VCU
part K text: XCZU4CG-SFVC784; GND PINS

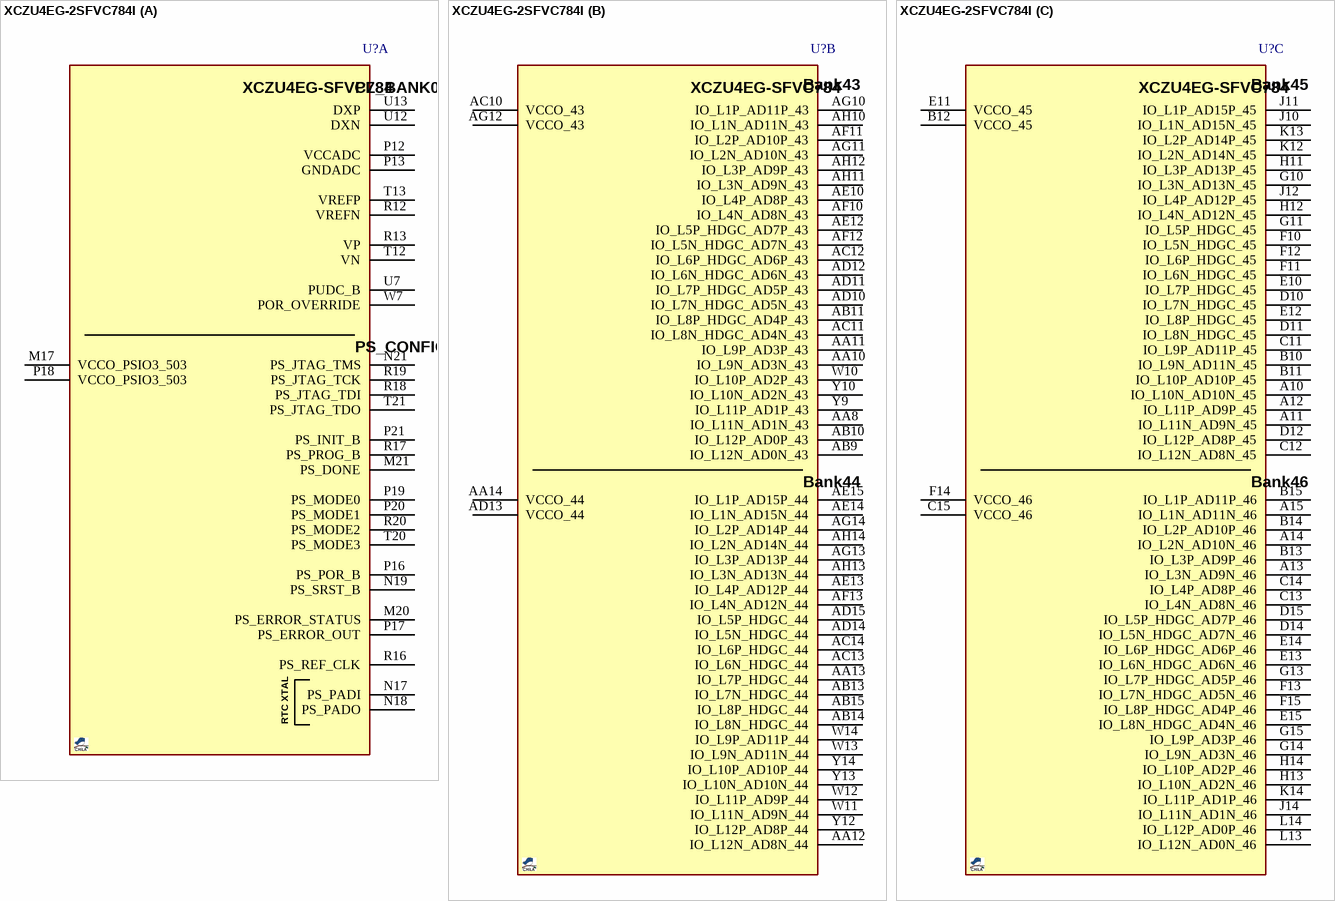
[diagram p18: symbol XCZU4EG-2SFVC784I]

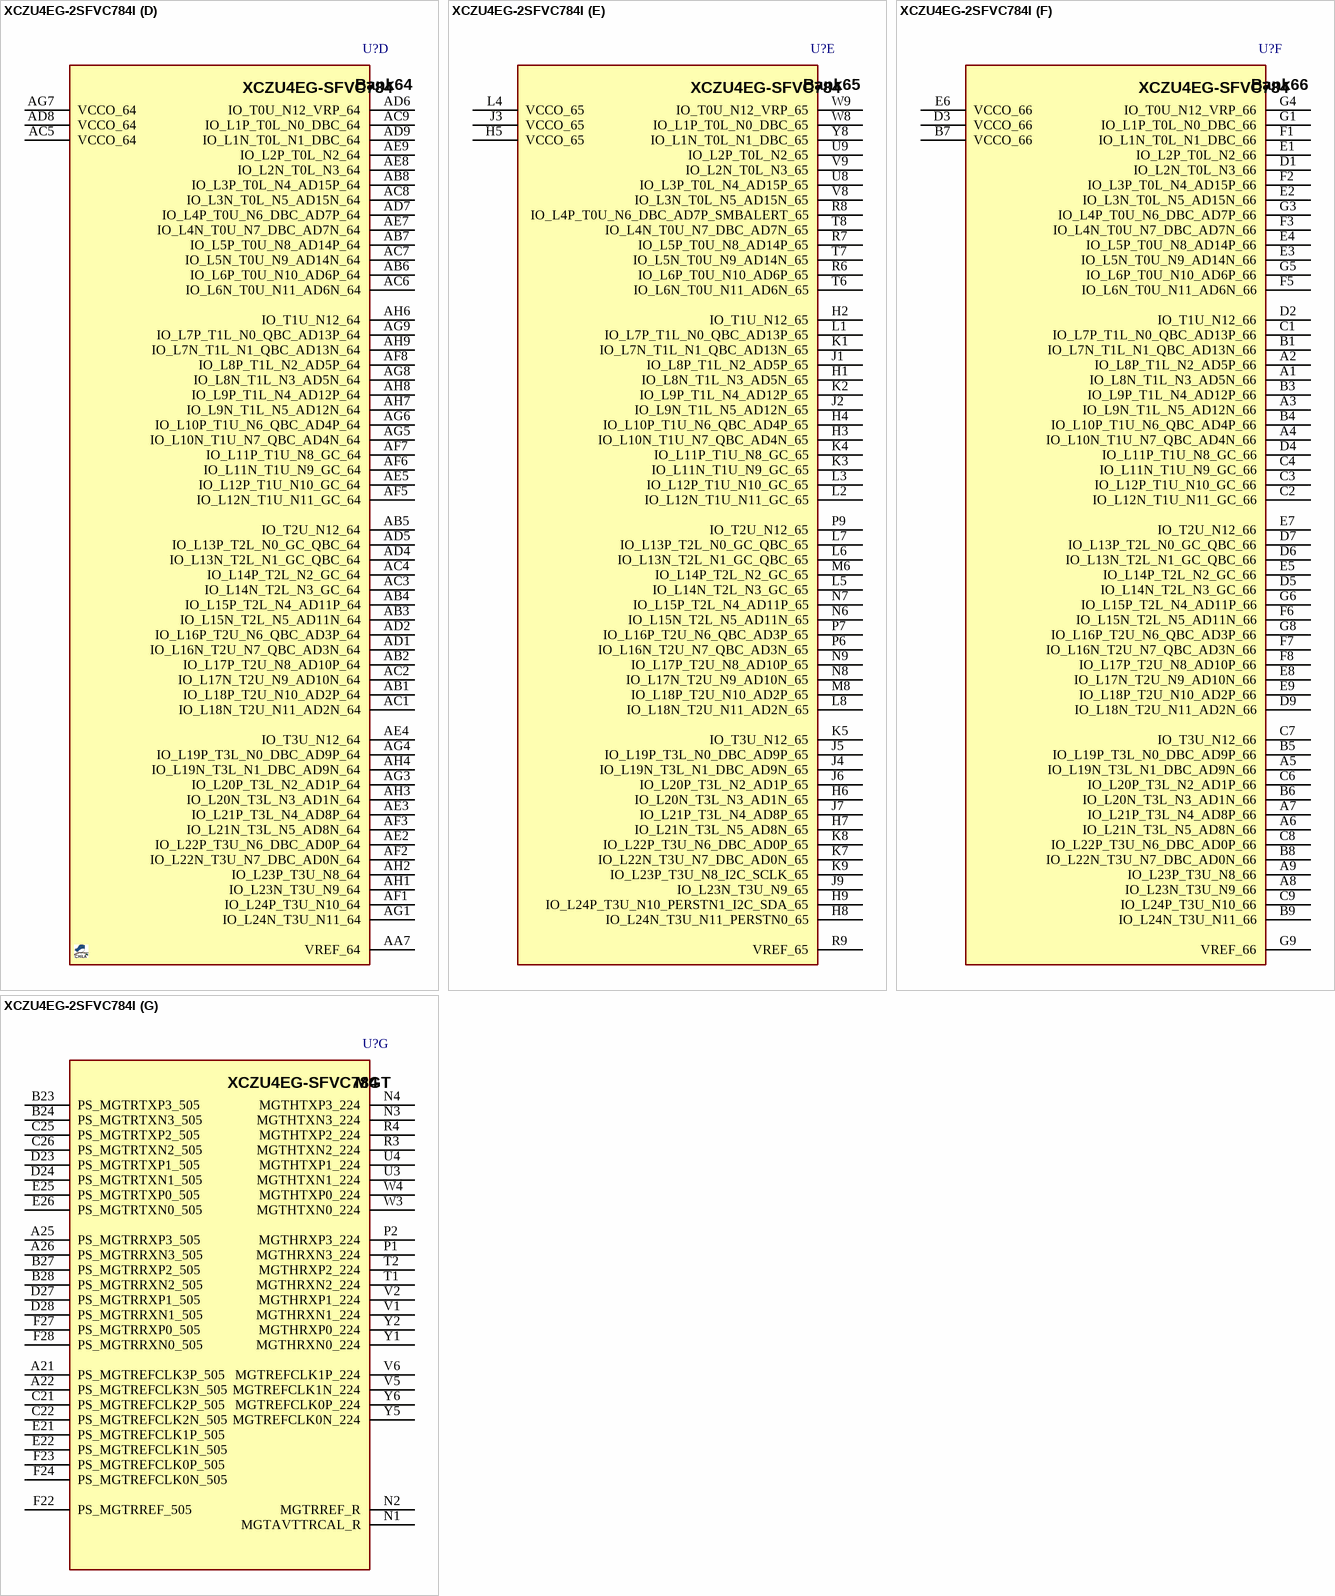
[diagram p19: symbol XCZU4EG-2SFVC784I]

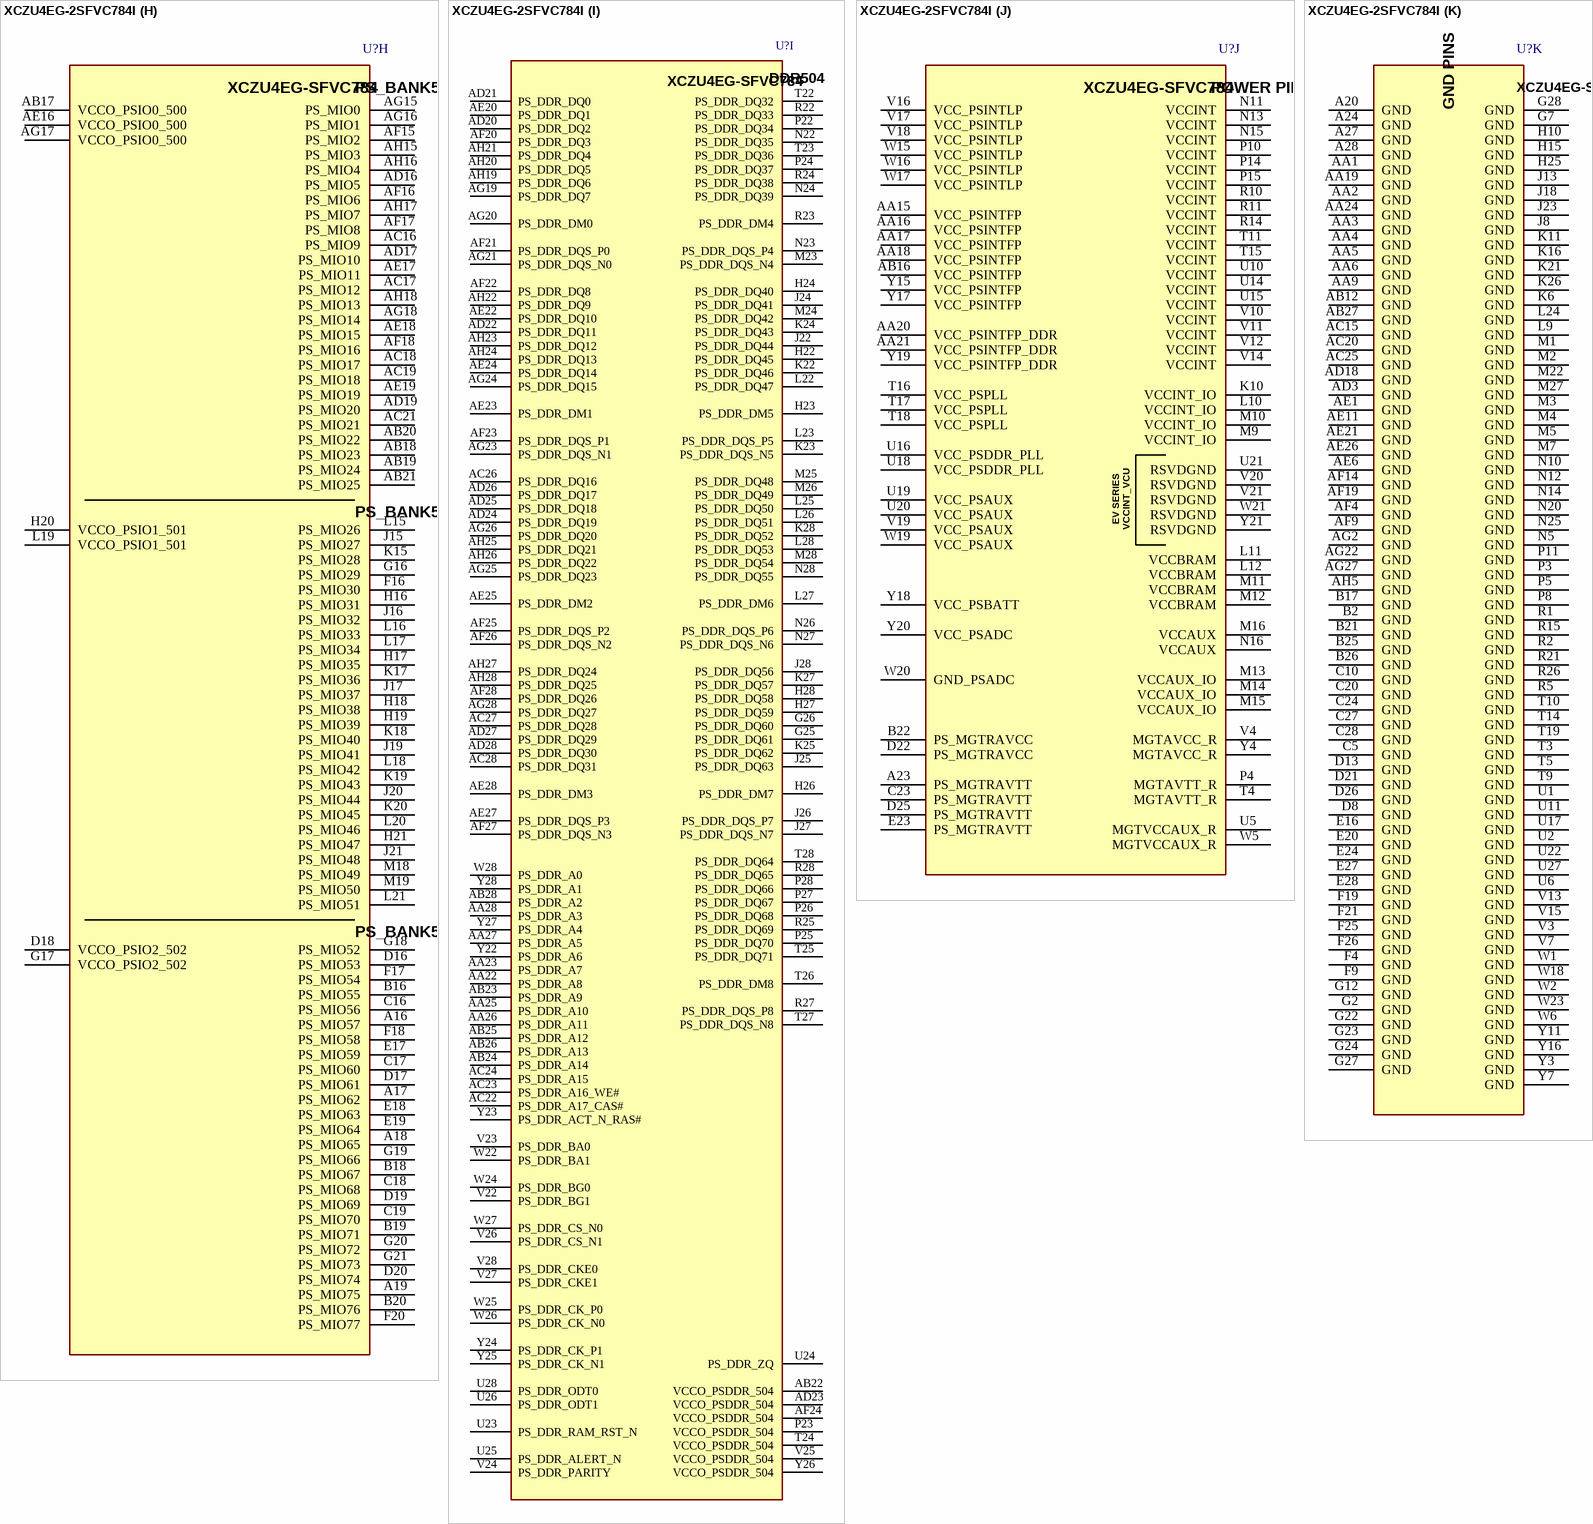
[diagram p20: symbol XCZU4EG-2SFVC784I]